# Altium schematic symbol library Schematic-FragasLab.SchLib: 425 symbols (part 5 of 7)
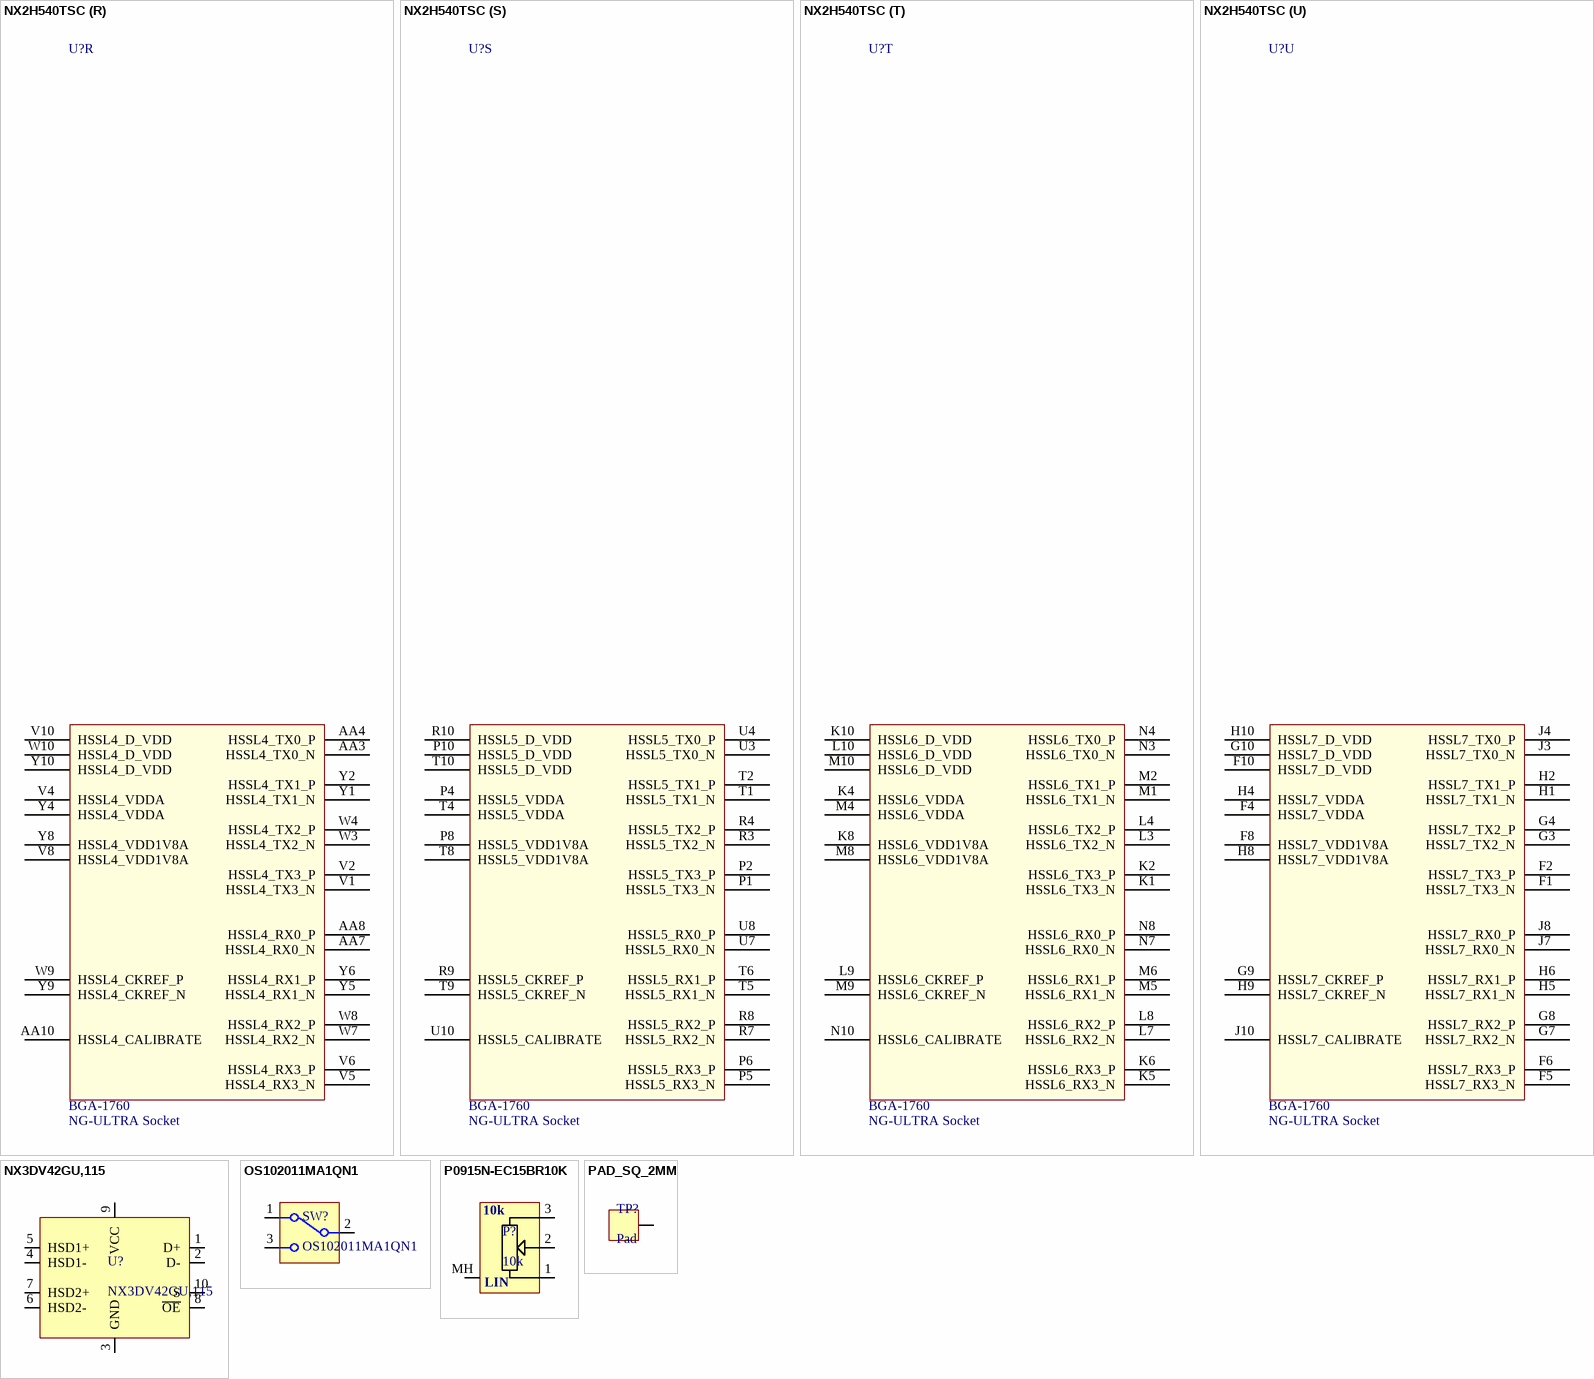
[diagram p46: symbols NX2H540TSC to PAD_SQ_2MM]

## NX2H540TSC
designator U?, comment value NG-ULTRA Socket  Footprint: BGA-1760  (hidden comment: NG-ULTRA)
socket for NG-ULTRA plastic in LGA-1760 NG-ULTRA with 500 KLUT / 129Kreg / Quad Cortex R52; Part manufacturer: NANOXPLORE; Part number: NG-ULTRA Socket; Supplier: Nanoxplore
footprint FBGA-1760
part A pins: AF31 READY, AF32 ERROR, AG31 TRIGGER, AG32 RST_SOFT_N, AH31 MODE0, AH32 VDDIO_SERVICE, AH33 RST_HARD_N, AJ31 MODE1, AJ33 POK, AK30 ID0, AK31 ID1, AK32 ID2, AK33 ID3, AL25 CS, AL26 TYPE0, AL27 TYPE1, AL28 DATA_OE, AL29 USER1, AL30 USER2, AL31 VDDIO_SERVICE, AL32 USER3, AL33 USER4, AM25 D13, AM26 VDDIO_SERVICE, AM27 D14, AM28 D15, AM29 USER0, AM30 TCK, AM31 TDI, AM32 TDO, AM33 TRST, AN25 D8, AN26 D9, AN28 D10, AN29 D11, AN30 D12, AN32 TMS, AN33 CLK_OSC, AP25 D0, AP26 D1, AP27 D2, AP28 D3, AP29 D4, AP30 D5, AP31 D6, AP32 D7, AP33 CLK_BSM, J25 SPI1_CS_N, J26 SPI1_IO0, J27 SPI1_IO1, J28 SPI1_IO2, J29 SPI1_IO3, J31 SPI1_SCLK, J32 SIN, J33 SOUT, K25 SPI2_CS_N, K26 SPI2_IO0, K27 SPI2_IO1, K28 SPI2_IO2, K29 SPI2_IO3, K30 SPI2_SCLK, K31 SPI_RESET_N, K32 DIN, K33 DOUT, L25 SPI3_CS_N, L26 SPI3_IO0, L28 SPI3_IO1, L29 SPI3_IO2, L30 SPI3_IO3, L31 SPI3_SCLK, M26 SPI4_CS_N, M27 SPI4_IO0, M28 SPI4_IO1, M29 SPI4_IO2, M30 SPI4_IO3, M31 SPI4_SCLK, M32 FLASH_NUM0, M33 FLASH_NUM1, N28 REFCLK1, N29 GPIO0, N30 GPIO1, N31 GPIO2, N32 FLASH_MODE, N33 BOOT_SRC, P30 GPIO3, P31 GPIO4, P32 GPIO5, P33 GPIO7, R29 REFCLK2, R30 UART_TX, R31 UART_RX, R32 GPIO6, T29 UART_CTS_N, T30 UART_RTS_N, T31 POWER_ON_RSTN, T33 MODE_BIST, U29 BL0_RUNNING, U30 BOOT_ERROR, U31 MODE_SCAN, U32 SYSTEM_RSTN, V30 MODE_TEST, V31 MREPAIR_SEQ_BYPASS, V32 POST_MORTEM
part B pins: AL17 IO_B00D06, AL18 IO_B00D07, AL19 IO_B00_VDDIO, AL20 IO_B00D14, AL21 IO_B00D15, AL22 IO_B00D16, AL23 IO_B00D17, AL24 IO_B00_VDDIO, AM18 IO_B00D04, AM19 IO_B00D05, AM20 IO_B00D12, AM21 IO_B00D13, AM23 IO_B00D18, AM24 IO_B00D19, AN17 IO_B00D00, AN18 IO_B00D02, AN19 IO_B00D03, AN20 IO_B00D10, AN21 IO_B00D11, AN22 IO_B00D20, AN23 IO_B00D21, AN24 IO_B00D22, AP17 IO_B00_VDDIO, AP18 IO_B00D01, AP20 IO_B00D08, AP21 IO_B00D09, AP22 IO_B00_VDDIO, AP23 IO_B00D23, AR17 IO_B01D06, AR18 IO_B01D07, AR19 IO_B01_VDDIO, AR20 IO_B01D14, AR21 IO_B01D15, AR22 IO_B01D16, AR23 IO_B01D17, AR24 IO_B01_VDDIO, AT18 IO_B01D04, AT19 IO_B01D05, AT20 IO_B01D12, AT21 IO_B01D13, AT23 IO_B01D18, AT24 IO_B01D19, AU17 IO_B01D00, AU18 IO_B01D02, AU19 IO_B01D03, AU20 IO_B01D10, AU21 IO_B01D11, AU22 IO_B01D20, AU23 IO_B01D21, AU24 IO_B01D22, AV17 IO_B01_VDDIO, AV18 IO_B01D01, AV20 IO_B01D08, AV21 IO_B01D09, AV22 IO_B01_VDDIO, AV23 IO_B01D23
part C pins: E17 IO_B06_VDDIO, E18 IO_B06D01, E20 IO_B06D08, E21 IO_B06D09, E22 IO_B06_VDDIO, E23 IO_B06D23, F17 IO_B06D00, F18 IO_B06D02, F19 IO_B06D03, F20 IO_B06D10, F21 IO_B06D11, F22 IO_B06D20, F23 IO_B06D21, F24 IO_B06D22, G18 IO_B06D04, G19 IO_B06D05, G20 IO_B06D12, G21 IO_B06D13, G23 IO_B06D18, G24 IO_B06D19, H17 IO_B06D06, H18 IO_B06D07, H19 IO_B06_VDDIO, H20 IO_B06D14, H21 IO_B06D15, H22 IO_B06D16, H23 IO_B06D17, H24 IO_B06_VDDIO, J17 IO_B07_VDDIO, J18 IO_B07D01, J20 IO_B07D08, J21 IO_B07D09, J22 IO_B07_VDDIO, J23 IO_B07D23, K17 IO_B07D00, K18 IO_B07D02, K19 IO_B07D03, K20 IO_B07D10, K21 IO_B07D11, K22 IO_B07D20, K23 IO_B07D21, K24 IO_B07D22, L18 IO_B07D04, L19 IO_B07D05, L20 IO_B07D12, L21 IO_B07D13, L23 IO_B07D18, L24 IO_B07D19, M17 IO_B07D06, M18 IO_B07D07, M19 IO_B07_VDDIO, M20 IO_B07D14, M21 IO_B07D15, M22 IO_B07D16, M23 IO_B07D17, M24 IO_B07_VDDIO
part D pins: AL12 IO_B02D06_N, AL14 IO_B02D06_P, AL15 IO_B02D04_N, AL16 IO_B02_VDDIO, AM12 IO_B02D07_N, AM13 IO_B02D07_P, AM14 IO_B02D05_N, AM15 IO_B02D05_P, AM16 IO_B02D04_P, AN12 IO_B02D08_N, AN13 IO_B02_VDDIO, AN14 IO_B02D10_N, AN15 IO_B02D11_N, AP12 IO_B02D08_P_CLK, AP13 IO_B02D09_N, AP14 IO_B02D09_P_CLK, AP15 IO_B02D10_P, AP16 IO_B02D11_P, AR12 IO_B02D01_N_SWSO, AR13 IO_B02D00_N_SWDO, AR14 IO_B02D00_P_SWDO, AR15 IO_B02D12_N, AR16 IO_B02D12_P, AT12 IO_B02D01_P_SWSO, AT14 IO_B02D02_N_SWDI, AT15 IO_B02D13_N_SWDO, AT16 IO_B02_VDDIO, AU12 IO_B02D03_N_SWSI, AU13 IO_B02D03_P_SWSI, AU14 IO_B02D02_P_SWDI, AU15 IO_B02D13_P_SWDO, AU16 IO_B02D14_N_SWSO, AV12 IO_B02_VTO, AV13 IO_B02_VTO, AV14 IO_B02_VTO, AV15 IO_B02_VDDIO, AV16 IO_B02D14_P_SWSO, AW4 IO_B03D11_N, AW5 IO_B03D11_P, AW6 IO_B03_VDDIO, AW7 IO_B03D09_N, AW8 IO_B03D09_P_CLK, AW10 IO_B03D06_P, AW11 IO_B03_VDDIO, AW12 IO_B03_VTO, AW13 IO_B03_VTO, AW14 IO_B03_VTO, AW15 IO_B02_VDDS, AY3 IO_B03D12_N, AY4 IO_B03D12_P, AY5 IO_B03D10_N, AY6 IO_B03D10_P, AY7 IO_B03D08_N, AY8 IO_B03D08_P_CLK, AY9 IO_B03D06_N, AY10 IO_B03D05_N, AY11 IO_B03D05_P, AY12 IO_B03D04_N, AY13 IO_B03D04_P, AY14 IO_B03_VDDS, AY15 IO_B02D15_N_SWDI, AY16 IO_B02D15_P_SWDI, BA3 IO_B03D15_N_SWDI, BA4 IO_B03D16_N_SWSI, BA5 IO_B03D16_P_SWSI, BA7 IO_B03D07_N, BA8 IO_B03D07_P, BA9 IO_B03D03_N_SWSI, BA10 IO_B03D03_P_SWSI, BA12 IO_B03D01_N_SWSO, BA13 IO_B03D01_P_SWSO, BA14 IO_B03_VDDIO, BA15 IO_B02D16_N_SWSI, BA16 IO_B02D16_P_SWSI, BB3 IO_B03_VDDIO, BB4 IO_B03D15_P_SWDI, BB5 IO_B03D14_N_SWSO, BB6 IO_B03D14_P_SWSO, BB7 IO_B03D13_N_SWDO, BB8 IO_B03D13_P_SWDO, BB9 IO_B03_VDDIO, BB10 IO_B03D02_N_SWDI, BB11 IO_B03D02_P_SWDI, BB12 IO_B03D00_N_SWDO, BB13 IO_B03D00_P_SWDO, BB16 IO_B02_VDDIO
part E pins: A3 IO_B04_VDDIO, A4 IO_B04D15_P_SWDI, A5 IO_B04D14_N_SWSO, A6 IO_B04D14_P_SWSO, A7 IO_B04D13_N_SWDO, A8 IO_B04D13_P_SWDO, A9 IO_B04_VDDIO, A10 IO_B04D02_N_SWDI, A11 IO_B04D02_P_SWDI, A12 IO_B04D00_N_SWDO, A13 IO_B04D00_P_SWDO, A16 IO_B05_VDDIO, B3 IO_B04D15_N_SWDI, B4 IO_B04D16_N_SWSI, B5 IO_B04D16_P_SWSI, B7 IO_B04D07_N, B8 IO_B04D07_P, B9 IO_B04D03_N_SWSI, B10 IO_B04D03_P_SWSI, B12 IO_B04D01_N_SWSO, B13 IO_B04D01_P_SWSO, B14 IO_B04_VDDIO, B15 IO_B05D16_N_SWSI, B16 IO_B05D16_P_SWSI, C3 IO_B04D12_N, C4 IO_B04D12_P, C5 IO_B04D10_N, C6 IO_B04D10_P, C7 IO_B04D08_N, C8 IO_B04D08_P_CLK, C9 IO_B04D06_N, C10 IO_B04D05_N, C11 IO_B04D05_P, C12 IO_B04D04_N, C13 IO_B04D04_P, C14 IO_B04_VDDS, C15 IO_B05D15_N_SWDI, C16 IO_B05D15_P_SWDI, D4 IO_B04D11_N, D5 IO_B04D11_P, D6 IO_B04_VDDIO, D7 IO_B04D09_N, D8 IO_B04D09_P_CLK, D10 IO_B04D06_P, D11 IO_B04_VDDIO, D12 IO_B04_VTO, D13 IO_B04_VTO, D14 IO_B04_VTO, D15 IO_B05_VDDS, E12 IO_B05_VTO, E13 IO_B05_VTO, E14 IO_B05_VTO, E15 IO_B05_VDDIO, E16 IO_B05D14_P_SWSO, F12 IO_B05D03_N_SWSI, F13 IO_B05D03_P_SWSI, F14 IO_B05D02_P_SWDI, F15 IO_B05D13_P_SWDO, F16 IO_B05D14_N_SWSO, G12 IO_B05D01_P_SWSO, G14 IO_B05D02_N_SWDI, G15 IO_B05D13_N_SWDO, G16 IO_B05_VDDIO, H12 IO_B05D01_N_SWSO, H13 IO_B05D00_N_SWDO, H14 IO_B05D00_P_SWDO, H15 IO_B05D12_N, H16 IO_B05D12_P, J12 IO_B05D08_P_CLK, J13 IO_B05D09_N, J14 IO_B05D09_P_CLK, J15 IO_B05D10_P, J16 IO_B05D11_P, K12 IO_B05D08_N, K13 IO_B05_VDDIO, K14 IO_B05D10_N, K15 IO_B05D11_N, L12 IO_B05D07_N, L13 IO_B05D07_P, L14 IO_B05D05_N, L15 IO_B05D05_P, L16 IO_B05D04_P, M12 IO_B05D06_N, M14 IO_B05D06_P, M15 IO_B05D04_N, M16 IO_B05_VDDIO
part F pins: A18 IO_B08D01_N_SWSO, A19 IO_B08D01_P_SWSO, A20 IO_B08_VDDIO, A21 IO_B08D10_N, A22 IO_B08D10_P, A24 IO_B08D12_N, A25 IO_B08D12_P, A26 IO_B08_VDDIO, A27 IO_B08_VDDIO, B17 IO_B08D00_N_SWDO, B18 IO_B08D00_P_SWDO, B19 IO_B08D04_N, B20 IO_B08D04_P, B21 IO_B08D09_N, B22 IO_B08D09_P_CLK, B23 IO_B08D11_N, B24 IO_B08D11_P, B25 IO_B08D14_N_SWSO, B26 IO_B08D14_P_SWSO, B27 IO_B08D15_P_SWDI, C17 IO_B08_VDDIO, C18 IO_B08D02_N_SWDI, C19 IO_B08D02_P_SWDI, C21 IO_B08D07_N, C22 IO_B08D07_P, C23 IO_B08_VDDIO, C24 IO_B08D13_N_SWDO, C25 IO_B08D13_P_SWDO, C26 IO_B08D15_N_SWDI, C27 IO_B08D16_P_SWSI, C28 IO_B08_VTO, C31 IO_B08_VDDS, D17 IO_B08D03_N_SWSI, D18 IO_B08D03_P_SWSI, D19 IO_B08D05_N, D20 IO_B08D05_P, D21 IO_B08D06_N, D22 IO_B08D06_P, D23 IO_B08D08_N, D24 IO_B08D08_P_CLK, D26 IO_B08D16_N_SWSI, D27 IO_B09D01_P_SWSO, D28 IO_B08_VTO, D30 IO_B09_VTO, E26 IO_B09D01_N_SWSO, E27 IO_B09D04_N, E28 IO_B08_VTO, E29 IO_B09_VTO, E30 IO_B09_VTO, E31 IO_B09_VDDS, E32 IO_B09D11_N, E33 IO_B09D11_P, E34 IO_B09D12_N, E35 IO_B09D12_P, F25 IO_B09D00_N_SWDO, F26 IO_B09D00_P_SWDO, F27 IO_B09_VDDIO, F28 IO_B09D04_P, F29 IO_B09D07_N, F31 IO_B09D10_N, F32 IO_B09D10_P, F33 IO_B09_VDDIO, F34 IO_B09D15_N_SWDI, F35 IO_B09D14_N_SWSO, G25 IO_B09D02_N_SWDI, G26 IO_B09D02_P_SWDI, G27 IO_B09D03_P_SWSI, G28 IO_B09D06_N, G29 IO_B09D06_P, G30 IO_B09D07_P, G31 IO_B09D09_N, G32 IO_B09D09_P_CLK, G33 IO_B09D13_N_SWDO, G34 IO_B09D13_P_SWDO, G35 IO_B09D15_P_SWDI, G36 IO_B09D14_P_SWSO, H25 IO_B09_VDDIO, H26 IO_B09D03_N_SWSI, H28 IO_B09D05_N, H29 IO_B09D05_P, H30 IO_B09_VDDIO, H31 IO_B09D08_N, H32 IO_B09D08_P_CLK, H34 IO_B09D16_N_SWSI, H35 IO_B09D16_P_SWSI, H36 IO_B09_VDDIO
part G pins: A28 IO_B10_VDDIO, A29 IO_B10D01_N_SWSO, A30 IO_B10D01_P_SWSO, A32 IO_B10D04_N, A33 IO_B10D04_P, A34 IO_B10_VDDIO, A35 IO_B10D10_N, A36 IO_B10D10_P, A38 IO_B10D12_N, A39 IO_B10D12_P, A40 IO_B10_VDDIO, B30 IO_B10D00_N_SWDO, B31 IO_B10D00_P_SWDO, B32 IO_B10D02_N_SWDI, B33 IO_B10D02_P_SWDI, B34 IO_B10D09_N, B35 IO_B10D09_P_CLK, B36 IO_B10D11_N, B37 IO_B10D11_P, B38 IO_B10D13_N_SWDO, B39 IO_B10D13_P_SWDO, B40 IO_B10D14_P_SWSO, C29 IO_B10_VTO, C30 IO_B10_VTO, C32 IO_B10D03_N_SWSI, C33 IO_B10D03_P_SWSI, C35 IO_B10D07_N, C36 IO_B10D07_P, C37 IO_B10_VDDIO, C38 IO_B10D15_P_SWDI, C39 IO_B10D14_N_SWSO, D29 IO_B10_VTO, D31 IO_B10_VDDS, D32 IO_B10_VDDIO, D33 IO_B10D05_N, D34 IO_B10D05_P, D35 IO_B10D06_N, D36 IO_B10D06_P, D37 IO_B10D08_P_CLK, D38 IO_B10D15_N_SWDI, D39 IO_B10D16_N_SWSI, D40 IO_B10D16_P_SWSI, E36 IO_B10D08_N
part H pins: AV36 IO_B11D08_N, AW29 IO_B11_VTO, AW31 IO_B11_VDDS, AW32 IO_B11_VDDIO, AW33 IO_B11D05_N, AW34 IO_B11D05_P, AW35 IO_B11D06_N, AW36 IO_B11D06_P, AW37 IO_B11D08_P_CLK, AW38 IO_B11D15_N_SWDI, AW39 IO_B11D16_N_SWSI, AW40 IO_B11D16_P_SWSI, AY29 IO_B11_VTO, AY30 IO_B11_VTO, AY32 IO_B11D03_N_SWSI, AY33 IO_B11D03_P_SWSI, AY35 IO_B11D07_N, AY36 IO_B11D07_P, AY37 IO_B11_VDDIO, AY38 IO_B11D15_P_SWDI, AY39 IO_B11D14_N_SWSO, BA30 IO_B11D00_N_SWDO, BA31 IO_B11D00_P_SWDO, BA32 IO_B11D02_N_SWDI, BA33 IO_B11D02_P_SWDI, BA34 IO_B11D09_N, BA35 IO_B11D09_P_CLK, BA36 IO_B11D11_N, BA37 IO_B11D11_P, BA38 IO_B11D13_N_SWDO, BA39 IO_B11D13_P_SWDO, BA40 IO_B11D14_P_SWSO, BB28 IO_B11_VDDIO, BB29 IO_B11D01_N_SWSO, BB30 IO_B11D01_P_SWSO, BB32 IO_B11D04_N, BB33 IO_B11D04_P, BB34 IO_B11_VDDIO, BB35 IO_B11D10_N, BB36 IO_B11D10_P, BB38 IO_B11D12_N, BB39 IO_B11D12_P, BB40 IO_B11_VDDIO
part I pins: AR25 IO_B12_VDDIO, AR26 IO_B12D03_N_SWSI, AR28 IO_B12D05_N, AR29 IO_B12D05_P, AR30 IO_B12_VDDIO, AR31 IO_B12D08_N, AR32 IO_B12D08_P_CLK, AR34 IO_B12D16_N_SWSI, AR35 IO_B12D16_P_SWSI, AR36 IO_B12_VDDIO, AT25 IO_B12D02_N_SWDI, AT26 IO_B12D02_P_SWDI, AT27 IO_B12D03_P_SWSI, AT28 IO_B12D06_N, AT29 IO_B12D06_P, AT30 IO_B12D07_P, AT31 IO_B12D09_N, AT32 IO_B12D09_P_CLK, AT33 IO_B12D13_N_SWDO, AT34 IO_B12D13_P_SWDO, AT35 IO_B12D15_P_SWDI, AT36 IO_B12D14_P_SWSO, AU25 IO_B12D00_N_SWDO, AU26 IO_B12D00_P_SWDO, AU27 IO_B12_VDDIO, AU28 IO_B12D04_P, AU29 IO_B12D07_N, AU31 IO_B12D10_N, AU32 IO_B12D10_P, AU33 IO_B12_VDDIO, AU34 IO_B12D15_N_SWDI, AU35 IO_B12D14_N_SWSO, AV26 IO_B12D01_N_SWSO, AV27 IO_B12D04_N, AV28 IO_B13_VTO, AV29 IO_B12_VTO, AV30 IO_B12_VTO, AV31 IO_B12_VDDS, AV32 IO_B12D11_N, AV33 IO_B12D11_P, AV34 IO_B12D12_N, AV35 IO_B12D12_P, AW17 IO_B13D03_N_SWSI, AW18 IO_B13D03_P_SWSI, AW19 IO_B13D05_N, AW20 IO_B13D05_P, AW21 IO_B13D06_N, AW22 IO_B13D06_P, AW23 IO_B13D08_N, AW24 IO_B13D08_P_CLK, AW26 IO_B13D16_N_SWSI, AW27 IO_B12D01_P_SWSO, AW28 IO_B13_VTO, AW30 IO_B12_VTO, AY17 IO_B13_VDDIO, AY18 IO_B13D02_N_SWDI, AY19 IO_B13D02_P_SWDI, AY21 IO_B13D07_N, AY22 IO_B13D07_P, AY23 IO_B13_VDDIO, AY24 IO_B13D13_N_SWDO, AY25 IO_B13D13_P_SWDO, AY26 IO_B13D15_N_SWDI, AY27 IO_B13D16_P_SWSI, AY28 IO_B13_VTO, AY31 IO_B13_VDDS, BA17 IO_B13D00_N_SWDO, BA18 IO_B13D00_P_SWDO, BA19 IO_B13D04_N, BA20 IO_B13D04_P, BA21 IO_B13D09_N, BA22 IO_B13D09_P_CLK, BA23 IO_B13D11_N, BA24 IO_B13D11_P, BA25 IO_B13D14_N_SWSO, BA26 IO_B13D14_P_SWSO, BA27 IO_B13D15_P_SWDI, BB18 IO_B13D01_N_SWSO, BB19 IO_B13D01_P_SWSO, BB20 IO_B13_VDDIO, BB21 IO_B13D10_N, BB22 IO_B13D10_P, BB24 IO_B13D12_N, BB25 IO_B13D12_P, BB26 IO_B13_VDDIO, BB27 IO_B13_VDDIO
part J pins: AB41 SOC_DDR_BG0, AB42 SOC_DDR_WEN, AC42 SOC_DDR_RST, AD35 SOC_DDR_DQSN5, AD36 SOC_DDR_DM5, AD37 SOC_DDR_DQ47, AD41 SOC_DDR_BG1, AD42 SOC_DDR_RAS, AE35 SOC_DDR_DQSP5, AE36 SOC_DDR_DQ46, AE37 SOC_DDR_DQ45, AE38 SOC_DDR_DQ44, AE39 SOC_DDR_DQ43, AE40 SOC_DDR_DQ42, AE41 SOC_DDR_BA0, AE42 SOC_DDR_ACT, AF36 SOC_DDR_DM4, AF37 SOC_DDR_DQ39, AF39 SOC_DDR_DQ40, AF40 SOC_DDR_DQ41, AF42 SOC_DDR_CAS, AG35 SOC_DDR_DQSN4, AG36 SOC_DDR_DQ38, AG37 SOC_DDR_DQ37, AG38 SOC_DDR_DQ36, AG39 SOC_DDR_DQ35, AG40 SOC_DDR_ODT, AG41 SOC_DDR_BA1, AH35 SOC_DDR_DQSP4, AH36 SOC_DDR_DQ32, AH37 SOC_DDR_DQ33, AH38 SOC_DDR_DQSN3, AH39 SOC_DDR_DQSP3, AH40 SOC_DDR_DQ34, AH41 SOC_DDR_A13, AJ36 SOC_DDR_DQ31, AJ37 SOC_DDR_DQ30, AJ39 SOC_DDR_DM3, AJ40 SOC_DDR_DQ29, AJ42 SOC_DDR_CSN, AK35 SOC_DDR_DM2, AK36 SOC_DDR_DQSP2, AK37 SOC_DDR_DQ28, AK38 SOC_DDR_DQ27, AK39 SOC_DDR_DQ26, AK40 SOC_DDR_DQ25, AK41 SOC_DDR_A12, AK42 SOC_DDR_CKE, AL35 SOC_DDR_DQSN2, AL36 SOC_DDR_DQ20, AL37 SOC_DDR_DQ21, AL38 SOC_DDR_DQ22, AL39 SOC_DDR_DQ23, AL40 SOC_DDR_DQ24, AL41 SOC_DDR_A11, AL42 SOC_DDR_A0, AM36 SOC_DDR_DQ19, AM37 SOC_DDR_DQ18, AM39 SOC_DDR_DM1, AM40 SOC_DDR_A1, AM42 SOC_DDR_CKP, AN36 SOC_DDR_DQ17, AN37 SOC_DDR_DQSP1, AN38 SOC_DDR_DQ15, AN39 SOC_DDR_DQ14, AN40 SOC_DDR_DQ13, AN41 SOC_DDR_A10, AN42 SOC_DDR_CKN, AP36 SOC_DDR_DQ16, AP37 SOC_DDR_DQSN1, AP38 SOC_DDR_DQ10, AP39 SOC_DDR_DQ11, AP40 SOC_DDR_DQ12, AP41 SOC_DDR_A9, AP42 SOC_DDR_A2, AR37 SOC_DDR_DQSP0, AR39 SOC_DDR_DQ8, AR40 SOC_DDR_DQ9, AR42 SOC_DDR_A3, AT37 SOC_DDR_DQSN0, AT38 SOC_DDR_DQ7, AT39 SOC_DDR_DQ6, AT40 SOC_DDR_DQ5, AT41 SOC_DDR_A8, AT42 SOC_DDR_A4, AU37 SOC_DDR_DM0, AU38 SOC_DDR_DQ2, AU39 SOC_DDR_DQ3, AU40 SOC_DDR_DQ4, AU41 SOC_DDR_A7, AU42 SOC_DDR_A5, AV39 SOC_DDR_DQ1, AV40 SOC_DDR_DQ0, AV42 SOC_DDR_A6
part K pins: AA35 SOC_DDR_DQSN7, AA36 SOC_DDR_DQ58, AA37 SOC_DDR_DQ59, AA38 SOC_DDR_DQ60, AA39 SOC_DDR_DQ61, AA40 SOC_DDR_DM6, AA41 SOC_DDR_DM13_BG0, AA42 SOC_DDR_DQ127_CKE, AB35 SOC_DDR_DQSP7, AB36 SOC_DDR_DQ55, AB37 SOC_DDR_DQ56, AB38 SOC_DDR_DQ57, AB39 SOC_DDR_DQSN6, AB40 SOC_DDR_DQSP6, AC36 SOC_DDR_DQ54, AC37 SOC_DDR_DQ53, AC39 SOC_DDR_DQ52, AC40 SOC_DDR_DQ51, AD38 SOC_DDR_DQ48, AD39 SOC_DDR_DQ49, AD40 SOC_DDR_DQ50, AG42 SOC_DDR_DQSN15_CKN, AH42 SOC_DDR_DQSP15_CKP, E39 SOC_DDR_DQ102, E40 SOC_DDR_DQ103, E42 SOC_DDR_DQ104_RST, F37 SOC_DDR_DQSN12, F38 SOC_DDR_DQSP12, F39 SOC_DDR_DQ101, F40 SOC_DDR_DQ100, F41 SOC_DDR_DQ107_WEN, F42 SOC_DDR_DQ105_ODT, G37 SOC_DDR_DM12, G38 SOC_DDR_DQ97, G39 SOC_DDR_DQ98, G40 SOC_DDR_DQ99, G41 SOC_DDR_DQ108_BA0, G42 SOC_DDR_DQ109_A6, H39 SOC_DDR_DQ96, H40 SOC_DDR_DQ95, H42 SOC_DDR_DQ110_A8, J36 SOC_DDR_DM11, J37 SOC_DDR_DQSN11, J38 SOC_DDR_DQSP11, J39 SOC_DDR_DQ93, J40 SOC_DDR_DQ94, J41 SOC_DDR_DQ111_A11, J42 SOC_DDR_DM14_A2, K36 SOC_DDR_DQ90, K37 SOC_DDR_DQ88, K38 SOC_DDR_DQ87, K39 SOC_DDR_DQ91, K40 SOC_DDR_DQ92, K41 SOC_DDR_DQ112_ACT, K42 SOC_DDR_DQSN13_CKN, L36 SOC_DDR_DQ89, L37 SOC_DDR_DQ84, L39 SOC_DDR_DQ86, L40 SOC_DDR_DQSP10, L42 SOC_DDR_DQSP13_CKP, M37 SOC_DDR_DQ83, M38 SOC_DDR_DQ85, M39 SOC_DDR_DM10, M40 SOC_DDR_DQSN10, M41 SOC_DDR_DQ113_A10, M42 SOC_DDR_DQ114_A4, N36 SOC_DDR_DQ82, N37 SOC_DDR_DQ81, N38 SOC_DDR_DQ80, N39 SOC_DDR_DQ79, N40 SOC_DDR_DQ115_A0, N41 SOC_DDR_DQ116_CSN, N42 SOC_DDR_DQ106_CKE, P37 SOC_DDR_DM9, P39 SOC_DDR_DQ77, P40 SOC_DDR_DQ78, P42 SOC_DDR_DQ117_CAS, R37 SOC_DDR_DQSN9, R38 SOC_DDR_DQ74, R39 SOC_DDR_DQ75, R40 SOC_DDR_DQ76, R41 SOC_DDR_DQ118_A12, R42 SOC_DDR_DQSN14_CKN, T37 SOC_DDR_DQSP9, T38 SOC_DDR_DQ72, T39 SOC_DDR_DQ73, T40 SOC_DDR_DQ119_A3, T41 SOC_DDR_DM15_BA1, T42 SOC_DDR_DQSP14_CKP, U37 SOC_DDR_DQ71, U39 SOC_DDR_DQSN8, U40 SOC_DDR_DQSP8, U42 SOC_DDR_DQ120_A1, V37 SOC_DDR_DQ70, V38 SOC_DDR_DQ69, V39 SOC_DDR_DQ68, V40 SOC_DDR_DM8, V41 SOC_DDR_DQ122_RAS, V42 SOC_DDR_DQ121_A9, W37 SOC_DDR_DQ65, W38 SOC_DDR_DQ66, W39 SOC_DDR_DQ67, W40 SOC_DDR_DQ123_BG1, W41 SOC_DDR_DQ124_A5, W42 SOC_DDR_DQ125_A7, Y36 SOC_DDR_DM7, Y37 SOC_DDR_DQ64, Y39 SOC_DDR_DQ63, Y40 SOC_DDR_DQ62, Y42 SOC_DDR_DQ126_A13
part L pins: AA30 SOC_VDDCORE, AA32 SOC_VDDCORE, AA34 SOC_VDDCORE, AB31 SOC_VDDCORE, AB33 SOC_VDDCORE, AC30 SOC_VDDCORE, AC32 SOC_VDDCORE, AC34 SOC_VDDCORE, AC38 SOC_DDR_VDDIO, AD31 SOC_VDDCORE, AD33 SOC_VDDCORE, AE30 SOC_VDDCORE, AE32 SOC_VDDCORE, AE34 SOC_VDDCORE, AF34 SOC_DDR_VDDS, AF35 SOC_DDR_VDDIO, AF41 SOC_DDR_VDDIO, AG33 SOC_DDR_VDDS, AG34 SOC_DDR_VDDS, AH34 SOC_DDR_VDDIO, AJ38 SOC_DDR_VDDIO, AM35 SOC_DDR_VDDIO, AM41 SOC_DDR_VDDIO, AN35 SOC_DDR_VDDIO, AR38 SOC_DDR_VDDIO, AV41 SOC_DDR_VDDIO, E37 SOC_DDR_VDDIO, E38 SOC_DDR_VDDIO, H41 SOC_DDR_VDDIO, J30 SOC_BSCAN_VDDIO, L33 SOC_BSCAN_VDDIO, L35 SOC_DDR_VDDIO, L38 SOC_DDR_VDDIO, M25 SOC_BSCAN_VDDIO, N35 SOC_DDR_VDDIO, P29 SOC_BSCAN_VDDIO, P35 SOC_DDR_VTO, P36 SOC_DDR_VTO, P41 SOC_DDR_VDDIO, R33 SOC_PLL_VDD1V8, R34 SOC_DDR_VTO, R35 SOC_DDR_VTO, R36 SOC_DDR_VTO, T34 SOC_DDR_VTO, T35 SOC_DDR_VTO, T36 SOC_DDR_VTO, U33 SOC_PLL_VDDA, U34 SOC_DDR_VTO, U35 SOC_DDR_VTO, U38 SOC_DDR_VDDIO, V33 SOC_BSCAN_VDDIO, V34 SOC_DDR_VTO, V35 SOC_DDR_VTO, V36 SOC_DDR_VTO, W30 SOC_VDDCORE, W32 SOC_VDDCORE, W34 SOC_VDDCORE, W35 SOC_DDR_VTO, W36 SOC_DDR_VTO, Y31 SOC_VDDCORE, Y33 SOC_VDDCORE, Y35 SOC_DDR_VDDIO, Y41 SOC_DDR_VDDIO
part M pins: A2 GND, A14 GND, A15 GND, A17 GND, A23 GND, A31 GND, A37 GND, A41 GND, AA1 GND, AA2 GND, AA5 GND, AA6 GND, AA9 GND, AA11 GND, AA12 CKGEN2_PLL_VDD1V8A, AA13 GND, AA14 VDDCORE, AA15 GND, AA16 VDDCORE, AA17 GND, AA18 VDDCORE, AA19 GND, AA20 VDDCORE, AA21 SENSE, AA22 VDDCORE, AA23 GND, AA24 VDDCORE, AA25 GND, AA26 VDD1V8A, AA27 VDD1V8A, AA28 VDDCORE, AA29 GND, AA31 GND, AA33 GND, AB3 GND, AB7 GND, AB9 GND, AB11 GND, AB12 CKGEN2_PLL_VDDA, AB13 VDDCORE, AB14 GND, AB15 VDDCORE, AB16 GND, AB17 VDDCORE, AB18 GND, AB19 VDDCORE, AB20 GND, AB21 VDDCORE, AB22 GND, AB23 VDDCORE, AB24 GND, AB25 VDDCORE, AB26 VDD1V8A, AB27 VDD1V8A, AB28 GND, AB29 VDDCORE, AB30 GND, AB32 GND, AB34 GND, AC1 GND, AC2 GND, AC5 GND, AC6 GND, AC11 GND, AC12 CKGEN2_PLL_VDD1V8A, AC13 GND, AC14 VDDCORE, AC15 GND, AC16 VDDCORE, AC17 GND, AC18 VDDCORE, AC19 GND, AC20 VDDCORE, AC21 GND, AC22 VDDCORE, AC23 GND, AC24 VDDCORE, AC25 GND, AC26 VDD1V8A, AC27 VDD1V8A, AC28 VDDCORE, AC29 GND, AC31 GND, AC33 GND, AC35 GND, AC41 GND, AD3 GND, AD7 GND, AD11 GND, AD12 GND, AD13 VDDCORE, AD14 GND, AD15 VDDCORE, AD16 GND, AD17 VDDCORE, AD18 GND, AD19 VDDCORE, AD20 GND, AD21 VDDCORE, AD22 GND, AD23 VDDCORE, AD24 GND, AD25 VDDCORE, AD26 GND, AD27 VDDCORE, AD28 GND, AD29 VDDCORE, AD30 GND, AD32 GND, AD34 GND, AE1 GND, AE2 GND, AE5 GND, AE6 GND, AE9 GND, AE11 GND, AE12 VDDCORE, AE13 GND, AE14 VDDCORE, AE15 GND, AE16 VDDCORE, AE17 GND, AE18 VDDCORE, AE19 GND, AE20 VDDCORE, AE21 GND, AE22 VDDCORE, AE23 GND, AE24 VDDCORE, AE25 GND, AE26 VDDCORE, AE27 GND, AE28 VDDCORE, AE29 GND, AE31 GND, AE33 GND, AF3 GND, AF7 GND, AF9 GND, AF11 GND, AF12 GND, AF13 VDDCORE, AF14 GND, AF15 VDDCORE, AF16 GND, AF17 VDDCORE, AF18 GND, AF19 VDDCORE, AF20 GND, AF21 VDDCORE, AF22 GND, AF23 VDDCORE, AF24 GND, AF25 VDDCORE, AF26 GND, AF27 VDDCORE, AF28 GND, AF29 VDDCORE, AF30 GND, AF33 GND, AF38 GND, AG1 GND, AG2 GND, AG5 GND, AG6 GND, AG11 GND, AG12 VDDCORE, AG13 GND, AG14 VDDCORE, AG15 GND, AG16 VDDCORE, AG17 GND, AG18 VDDCORE, AG19 GND, AG20 VDDCORE, AG21 GND, AG22 VDDCORE, AG23 GND, AG24 VDDCORE, AG25 GND, AG26 VDDCORE, AG27 GND, AG28 VDDCORE, AG29 GND, AG30 VDDCORE, AH3 GND, AH7 GND, AH11 GND, AH12 GND, AH13 VDDCORE, AH14 GND, AH15 VDDCORE, AH16 GND, AH17 VDDCORE, AH18 GND, AH19 VDDCORE, AH20 GND, AH21 VDDCORE, AH22 GND, AH23 VDDCORE, AH24 GND, AH25 VDDCORE, AH26 GND, AH27 VDDCORE, AH28 GND, AH29 VDDCORE, AH30 GND, AJ1 GND, AJ2 GND, AJ5 GND, AJ6 GND, AJ9 GND, AJ11 GND, AJ12 VDDCORE, AJ13 GND, AJ14 VDDCORE, AJ15 GND, AJ16 VDDCORE, AJ17 GND, AJ18 VDDCORE, AJ19 GND, AJ20 VDDCORE, AJ21 GND, AJ22 VDDCORE, AJ23 GND, AJ24 VDDCORE, AJ25 GND, AJ26 VDDCORE, AJ27 GND, AJ28 VDDCORE, AJ29 GND, AJ30 VDDCORE, AJ32 GND, AJ34 GND, AJ35 GND, AJ41 GND, AK3 GND, AK7 GND, AK9 GND, AK11 GND, AK12 GND, AK13 VDDCORE, AK14 GND, AK15 VDDCORE, AK16 GND, AK17 VDDCORE, AK18 GND, AK19 VDDCORE, AK20 GND, AK21 VDDCORE, AK22 GND, AK23 VDDCORE, AK24 GND, AK25 VDDCORE, AK26 GND, AK27 VDDCORE, AK28 GND, AK29 VDDCORE, AK34 CKGEN6_PLL_VDDA, AL1 GND, AL2 GND, AL5 GND, AL6 GND, AL11 GND, AL13 GND, AL34 CKGEN6_PLL_VDDA, AM3 GND, AM7 GND, AM11 GND, AM17 GND, AM22 GND, AM34 CKGEN6_PLL_VDD1V8A, AM38 GND, AN1 GND, AN2 GND, AN5 GND, AN6 GND, AN9 GND, AN11 GND, AN16 GND, AN27 GND, AN31 GND, AN34 CKGEN6_PLL_VDD1V8A, AP3 GND, AP7 GND, AP9 GND, AP11 GND, AP19 GND, AP24 GND, AP34 GND, AP35 GND, AR1 GND, AR2 GND, AR5 GND, AR6 GND, AR11 GND, AR27 GND, AR33 GND, AR41 GND, AT3 GND, AT7 GND, AT11 GND, AT13 GND, AT17 GND, AT22 GND, AU1 GND, AU2 GND, AU5 GND, AU6 GND, AU9 GND, AU11 GND, AU30 GND, AU36 GND, AV1 GND, AV2 GND, AV3 GND, AV4 GND, AV5 GND, AV6 GND, AV7 GND, AV8 GND, AV9 GND, AV10 GND, AV11 GND, AV19 GND, AV24 GND, AV25 GND, AV37 GND, AV38 GND, AW1 CKGEN1_PLL_VDD1V8A, AW2 CKGEN1_PLL_VDDA, AW3 GND, AW9 GND, AW16 GND, AW25 GND, AW41 CKGEN0_PLL_VDDA, AW42 CKGEN0_PLL_VDD1V8A, AY1 GND, AY2 CKGEN1_PLL_VDD1V8A, AY20 GND, AY34 GND, AY40 GND, AY41 CKGEN0_PLL_VDD1V8A, AY42 GND, B1 GND, B2 GND, B6 GND, B11 GND, B28 GND, B29 GND, B41 GND, B42 GND, BA1 GND, BA2 GND, BA6 GND, BA11 GND, BA28 GND, BA29 GND, BA41 GND, BA42 GND, BB2 GND, BB14 GND, BB15 GND, BB17 GND, BB23 GND, BB31 GND, BB37 GND, BB41 GND, C1 GND, C2 CKGEN3_PLL_VDD1V8A, C20 GND, C34 GND, C40 GND, C41 CKGEN4_PLL_VDD1V8A, C42 GND, D1 CKGEN3_PLL_VDD1V8A, D2 CKGEN3_PLL_VDDA, D3 GND, D9 GND, D16 GND, D25 GND, D41 CKGEN4_PLL_VDDA, D42 CKGEN4_PLL_VDD1V8A, E1 GND, E2 GND, E3 GND, E4 GND, E5 GND, E6 GND, E7 GND, E8 GND, E9 GND, E10 GND, E11 GND, E19 GND, E24 GND, E25 GND, E41 GND, F3 GND, F7 GND, F9 GND, F11 GND, F30 GND, F36 GND, G1 GND, G2 GND, G5 GND, G6 GND, G11 GND, G13 GND, G17 GND, G22 GND, H3 GND, H7 GND, H11 GND, H27 GND, H33 GND, H37 GND, H38 GND, J1 GND, J2 GND, J5 GND, J6 GND, J9 GND, J11 GND, J19 GND, J24 GND, J34 GND, J35 GND, K3 GND, K7 GND, K9 GND, K11 GND, K16 GND, K34 CKGEN5_PLL_VDD1V8A, K35 GND, L1 GND, L2 GND, L5 GND, L6 GND, L11 GND, L17 GND, L22 GND, L27 GND, L32 GND, L34 CKGEN5_PLL_VDD1V8A, L41 GND, M3 GND, M7 GND, M11 GND, M13 GND, M34 CKGEN5_PLL_VDDA, M35 GND, M36 GND, N1 GND, N2 GND, N5 GND, N6 GND, N9 GND, N11 GND, N12 VDDCORE, N13 GND, N14 VDDCORE, N15 GND, N16 VDDCORE, N17 GND, N18 VDDCORE, N19 GND, N20 VDDCORE, N21 GND, N22 VDDCORE, N23 GND, N24 VDDCORE, N25 GND, N26 VDDCORE, N27 GND, N34 CKGEN5_PLL_VDDA, P3 GND, P7 GND, P9 GND, P11 GND, P12 GND, P13 VDDCORE, P14 GND, P15 VDDCORE, P16 GND, P17 VDDCORE, P18 GND, P19 VDDCORE, P20 GND, P21 VDDCORE, P22 GND, P23 VDDCORE, P24 GND, P25 VDDCORE, P26 GND, P27 VDDCORE, P28 GND, P34 GND, P38 GND, R1 GND, R2 GND, R5 GND, R6 GND, R11 GND, R12 VDDCORE, R13 GND, R14 VDDCORE, R15 GND, R16 VDDCORE, R17 GND, R18 VDDCORE, R19 GND, R20 VDDCORE, R21 GND, R22 VDDCORE, R23 GND, R24 VDDCORE, R25 GND, R26 VDDCORE, R27 GND, R28 VDDCORE, T3 GND, T7 GND, T11 GND, T12 GND, T13 VDDCORE, T14 GND, T15 VDDCORE, T16 GND, T17 VDDCORE, T18 GND, T19 VDDCORE, T20 GND, T21 VDDCORE, T22 GND, T23 VDDCORE, T24 GND, T25 VDDCORE, T26 GND, T27 VDDCORE, T28 GND, T32 GND, U1 GND, U2 GND, U5 GND, U6 GND, U9 GND, U11 GND, U12 VDDCORE, U13 GND, U14 VDDCORE, U15 GND, U16 VDDCORE, U17 GND, U18 VDDCORE, U19 GND, U20 VDDCORE, U21 GND, U22 VDDCORE, U23 GND, U24 VDDCORE, U25 GND, U26 VDDCORE, U27 GND, U28 VDDCORE, U36 GND, U41 GND, V3 GND, V7 GND, V9 GND, V11 GND, V12 GND, V13 VDDCORE, V14 GND, V15 VDDCORE, V16 GND, V17 VDDCORE, V18 GND, V19 VDDCORE, V20 GND, V21 VDDCORE, V22 GND, V23 VDDCORE, V24 GND, V25 VDDCORE, V26 GND, V27 VDDCORE, V28 GND, V29 VDDCORE, W1 GND, W2 GND, W5 GND, W6 GND, W11 GND, W12 VDDCORE, W13 GND, W14 VDDCORE, W15 GND, W16 VDDCORE, W17 GND, W18 VDDCORE, W19 GND, W20 VDDCORE, W21 GND, W22 VDDCORE, W23 GND, W24 VDDCORE, W25 GND, W26 VDD1V8A, W27 VDD1V8A, W28 VDDCORE, W29 GND, W31 GND, W33 GND, Y3 GND, Y7 GND, Y11 GND, Y12 GND, Y13 VDDCORE, Y14 GND, Y15 VDDCORE, Y16 GND, Y17 VDDCORE, Y18 GND, Y19 VDDCORE, Y20 GND, Y21 VDDCORE, Y22 GND, Y23 VDDCORE, Y24 GND, Y25 VDDCORE, Y26 VDD1V8A, Y27 VDD1V8A, Y28 GND, Y29 VDDCORE, Y30 GND, Y32 GND, Y34 GND, Y38 GND
part N pins: AP1 HSSL0_TX3_N, AP2 HSSL0_TX3_P, AP4 HSSL0_VDDA, AP5 HSSL0_RX3_N, AP6 HSSL0_RX3_P, AP8 HSSL0_VDD1V8A, AP10 HSSL0_D_VDD, AR3 HSSL0_TX2_N, AR4 HSSL0_TX2_P, AR7 HSSL0_RX2_N, AR8 HSSL0_RX2_P, AR9 HSSL0_CKREF_P, AR10 HSSL0_D_VDD, AT1 HSSL0_TX1_N, AT2 HSSL0_TX1_P, AT4 HSSL0_VDDA, AT5 HSSL0_RX1_N, AT6 HSSL0_RX1_P, AT8 HSSL0_VDD1V8A, AT9 HSSL0_CKREF_N, AT10 HSSL0_D_VDD, AU3 HSSL0_TX0_N, AU4 HSSL0_TX0_P, AU7 HSSL0_RX0_N, AU8 HSSL0_RX0_P, AU10 HSSL0_CALIBRATE
part O pins: AK1 HSSL1_TX3_N, AK2 HSSL1_TX3_P, AK4 HSSL1_VDDA, AK5 HSSL1_RX3_N, AK6 HSSL1_RX3_P, AK8 HSSL1_VDD1V8A, AK10 HSSL1_D_VDD, AL3 HSSL1_TX2_N, AL4 HSSL1_TX2_P, AL7 HSSL1_RX2_N, AL8 HSSL1_RX2_P, AL9 HSSL1_CKREF_P, AL10 HSSL1_D_VDD, AM1 HSSL1_TX1_N, AM2 HSSL1_TX1_P, AM4 HSSL1_VDDA, AM5 HSSL1_RX1_N, AM6 HSSL1_RX1_P, AM8 HSSL1_VDD1V8A, AM9 HSSL1_CKREF_N, AM10 HSSL1_D_VDD, AN3 HSSL1_TX0_N, AN4 HSSL1_TX0_P, AN7 HSSL1_RX0_N, AN8 HSSL1_RX0_P, AN10 HSSL1_CALIBRATE
part P pins: AF1 HSSL2_TX3_N, AF2 HSSL2_TX3_P, AF4 HSSL2_VDDA, AF5 HSSL2_RX3_N, AF6 HSSL2_RX3_P, AF8 HSSL2_VDD1V8A, AF10 HSSL2_D_VDD, AG3 HSSL2_TX2_N, AG4 HSSL2_TX2_P, AG7 HSSL2_RX2_N, AG8 HSSL2_RX2_P, AG9 HSSL2_CKREF_P, AG10 HSSL2_D_VDD, AH1 HSSL2_TX1_N, AH2 HSSL2_TX1_P, AH4 HSSL2_VDDA, AH5 HSSL2_RX1_N, AH6 HSSL2_RX1_P, AH8 HSSL2_VDD1V8A, AH9 HSSL2_CKREF_N, AH10 HSSL2_D_VDD, AJ3 HSSL2_TX0_N, AJ4 HSSL2_TX0_P, AJ7 HSSL2_RX0_N, AJ8 HSSL2_RX0_P, AJ10 HSSL2_CALIBRATE
part Q pins: AB1 HSSL3_TX3_N, AB2 HSSL3_TX3_P, AB4 HSSL3_VDDA, AB5 HSSL3_RX3_N, AB6 HSSL3_RX3_P, AB8 HSSL3_VDD1V8A, AB10 HSSL3_D_VDD, AC3 HSSL3_TX2_N, AC4 HSSL3_TX2_P, AC7 HSSL3_RX2_N, AC8 HSSL3_RX2_P, AC9 HSSL3_CKREF_P, AC10 HSSL3_D_VDD, AD1 HSSL3_TX1_N, AD2 HSSL3_TX1_P, AD4 HSSL3_VDDA, AD5 HSSL3_RX1_N, AD6 HSSL3_RX1_P, AD8 HSSL3_VDD1V8A, AD9 HSSL3_CKREF_N, AD10 HSSL3_D_VDD, AE3 HSSL3_TX0_N, AE4 HSSL3_TX0_P, AE7 HSSL3_RX0_N, AE8 HSSL3_RX0_P, AE10 HSSL3_CALIBRATE
part R pins: AA3 HSSL4_TX0_N, AA4 HSSL4_TX0_P, AA7 HSSL4_RX0_N, AA8 HSSL4_RX0_P, AA10 HSSL4_CALIBRATE, V1 HSSL4_TX3_N, V2 HSSL4_TX3_P, V4 HSSL4_VDDA, V5 HSSL4_RX3_N, V6 HSSL4_RX3_P, V8 HSSL4_VDD1V8A, V10 HSSL4_D_VDD, W3 HSSL4_TX2_N, W4 HSSL4_TX2_P, W7 HSSL4_RX2_N, W8 HSSL4_RX2_P, W9 HSSL4_CKREF_P, W10 HSSL4_D_VDD, Y1 HSSL4_TX1_N, Y2 HSSL4_TX1_P, Y4 HSSL4_VDDA, Y5 HSSL4_RX1_N, Y6 HSSL4_RX1_P, Y8 HSSL4_VDD1V8A, Y9 HSSL4_CKREF_N, Y10 HSSL4_D_VDD
part S pins: P1 HSSL5_TX3_N, P2 HSSL5_TX3_P, P4 HSSL5_VDDA, P5 HSSL5_RX3_N, P6 HSSL5_RX3_P, P8 HSSL5_VDD1V8A, P10 HSSL5_D_VDD, R3 HSSL5_TX2_N, R4 HSSL5_TX2_P, R7 HSSL5_RX2_N, R8 HSSL5_RX2_P, R9 HSSL5_CKREF_P, R10 HSSL5_D_VDD, T1 HSSL5_TX1_N, T2 HSSL5_TX1_P, T4 HSSL5_VDDA, T5 HSSL5_RX1_N, T6 HSSL5_RX1_P, T8 HSSL5_VDD1V8A, T9 HSSL5_CKREF_N, T10 HSSL5_D_VDD, U3 HSSL5_TX0_N, U4 HSSL5_TX0_P, U7 HSSL5_RX0_N, U8 HSSL5_RX0_P, U10 HSSL5_CALIBRATE
part T pins: K1 HSSL6_TX3_N, K2 HSSL6_TX3_P, K4 HSSL6_VDDA, K5 HSSL6_RX3_N, K6 HSSL6_RX3_P, K8 HSSL6_VDD1V8A, K10 HSSL6_D_VDD, L3 HSSL6_TX2_N, L4 HSSL6_TX2_P, L7 HSSL6_RX2_N, L8 HSSL6_RX2_P, L9 HSSL6_CKREF_P, L10 HSSL6_D_VDD, M1 HSSL6_TX1_N, M2 HSSL6_TX1_P, M4 HSSL6_VDDA, M5 HSSL6_RX1_N, M6 HSSL6_RX1_P, M8 HSSL6_VDD1V8A, M9 HSSL6_CKREF_N, M10 HSSL6_D_VDD, N3 HSSL6_TX0_N, N4 HSSL6_TX0_P, N7 HSSL6_RX0_N, N8 HSSL6_RX0_P, N10 HSSL6_CALIBRATE
part U pins: F1 HSSL7_TX3_N, F2 HSSL7_TX3_P, F4 HSSL7_VDDA, F5 HSSL7_RX3_N, F6 HSSL7_RX3_P, F8 HSSL7_VDD1V8A, F10 HSSL7_D_VDD, G3 HSSL7_TX2_N, G4 HSSL7_TX2_P, G7 HSSL7_RX2_N, G8 HSSL7_RX2_P, G9 HSSL7_CKREF_P, G10 HSSL7_D_VDD, H1 HSSL7_TX1_N, H2 HSSL7_TX1_P, H4 HSSL7_VDDA, H5 HSSL7_RX1_N, H6 HSSL7_RX1_P, H8 HSSL7_VDD1V8A, H9 HSSL7_CKREF_N, H10 HSSL7_D_VDD, J3 HSSL7_TX0_N, J4 HSSL7_TX0_P, J7 HSSL7_RX0_N, J8 HSSL7_RX0_P, J10 HSSL7_CALIBRATE
part A text: Service Bank; BSCAN 1; BSCAN 0
part B text: Bank 0; Bank 1; Simple Banks
part C text: Bank 6; Bank 7; Simple Banks
part D text: BANK 2; BANK 3; Complex Banks
part E text: BANK 4; BANK 5; Complex Banks
part F text: BANK 8; BANK 9; Complex Banks
part G text: BANK 10; Complex Banks
part H text: BANK 11; Complex Banks
part I text: BANK 12; BANK 13; Complex Banks
part J text: DDR CTRL 1; SOC DDR INT.
part K text: DDR MODE CTRL N°2
part L text: SOC power; SOC DDR power
part M text: Power Pins eFPGA
part N text: HSSL 0
part O text: HSSL 1
part P text: HSSL 2
part Q text: HSSL 3

## NX3DV42GU,115
designator U?
USB2.0 HS DPDT Switch; Manufacturer: NXP Semiconductors; Manufacturer Part Number: NX3DV42GU,115
footprint XQFN-10_SOT1160-1
pins: 1 D+, 2 D-, 3 GND, 4 HSD1-, 5 HSD1+, 6 HSD2-, 7 HSD2+, 8 ~{OE}, 9 VCC, 10 S

## OS102011MA1QN1
designator SW?
Slide Switch SPDT Horizontal THT; Manufacturer: C&K; Manufacturer Part Number: OS102011MA1QN1
footprint OS102011MA1QN1
pins: 1, 2 COM, 3

## P0915N-EC15BR10K
designator P?, comment 10k
Potentiometer Vertical 10k Linear Taper THT PCB-Mount Smooth Shaft w/ Slot D=6mm L=15mm; Manufacturer: TT Electronics; Manufacturer Part Number: P0915N-EC15BR10K
footprint P0915N-EC15BR10K
pins: 1, 2, 3, MH
text: LIN

## PAD_SQ_2MM
designator TP?, comment Pad  (no BOM)
Test Point Square 2mm
footprint PAD_SQ_2MM
pins: 1

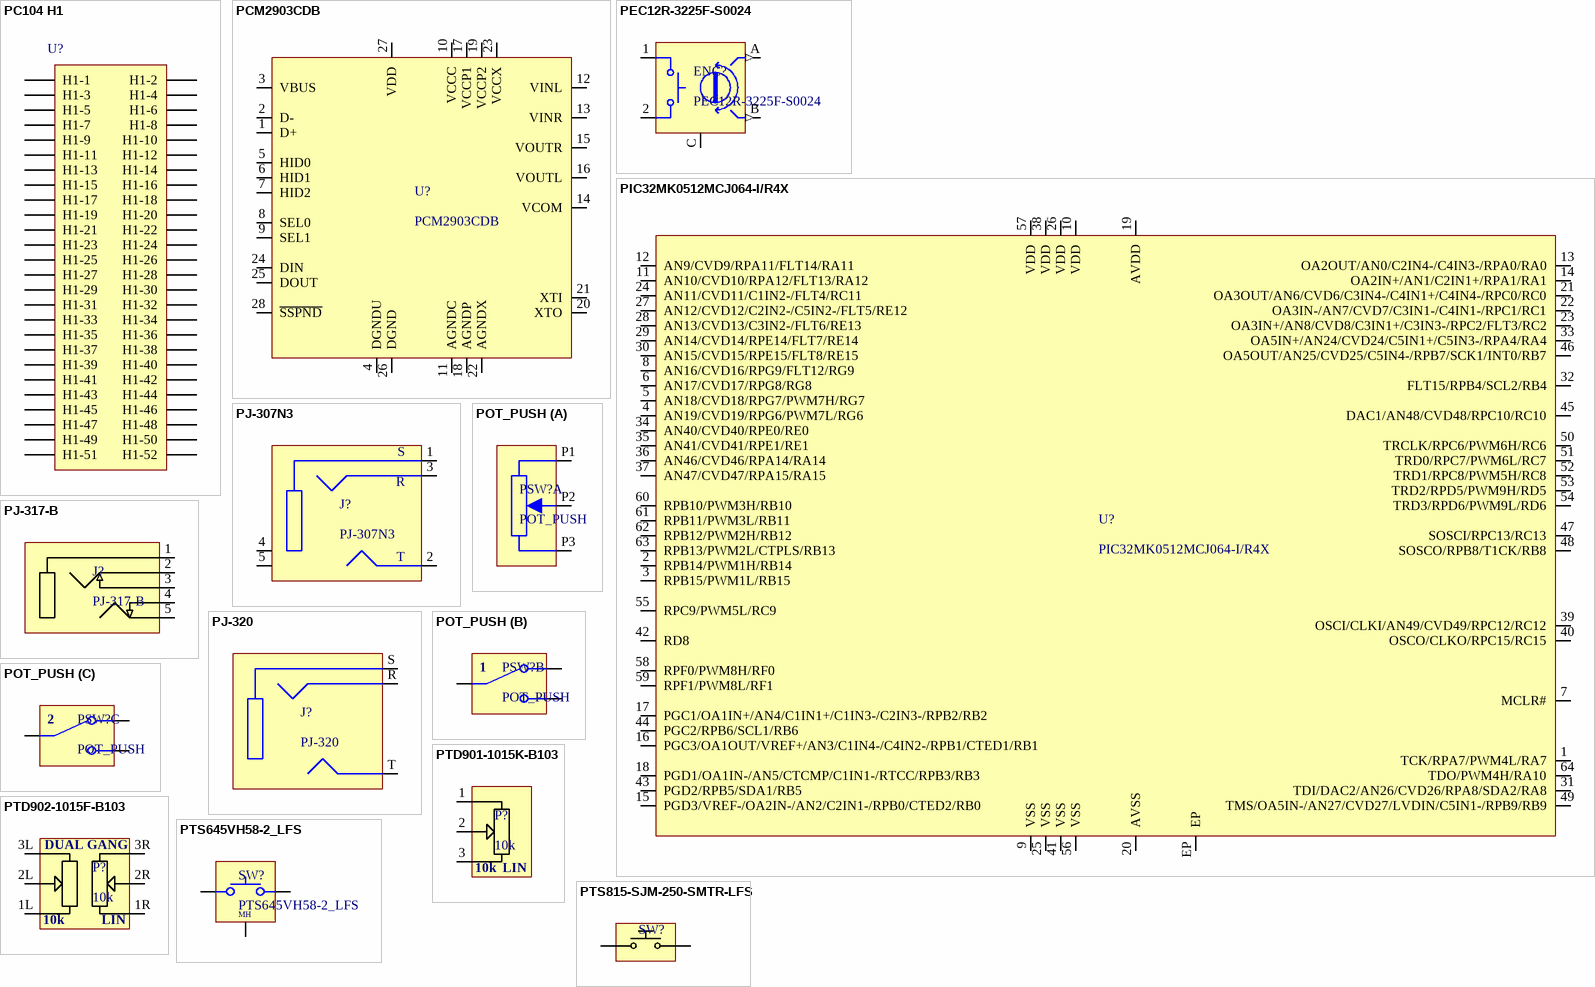
[diagram p29: symbols PC104 H1 to PTS815-SJM-250-SMTR-LFS]

## PC104 H1
designator U?
PC104; Partnumber: ESQ-126-39-G-D
footprint PC104 H1 (Connector; Header; 26x4 Position)
pins: H1-1, H1-2, H1-3, H1-4, H1-5, H1-6, H1-7, H1-8, H1-9, H1-10, H1-11, H1-12, H1-13, H1-14, H1-15, H1-16, H1-17, H1-18, H1-19, H1-20, H1-21, H1-22, H1-23, H1-24, H1-25, H1-26, H1-27, H1-28, H1-29, H1-30, H1-31, H1-32, H1-33, H1-34, H1-35, H1-36, H1-37, H1-38, H1-39, H1-40, H1-41, H1-42, H1-43, H1-44, H1-45, H1-46, H1-47, H1-48, H1-49, H1-50, H1-51, H1-52

## PCM2903CDB
designator U?
Stereo USB1.1 CODEC with line-out and S/PDIF I/O, Self-powered (HID Interface); Manufacturer: Texas Instruments; Manufacturer Part Number: PCM2903CDB
footprint SSOP-28
pins: 1 D+, 2 D-, 3 VBUS, 4 DGNDU, 5 HID0, 6 HID1, 7 HID2, 8 SEL0, 9 SEL1, 10 VCCC, 11 AGNDC, 12 VINL, 13 VINR, 14 VCOM, 15 VOUTR, 16 VOUTL, 17 VCCP1, 18 AGNDP, 19 VCCP2, 20 XTO, 21 XTI, 22 AGNDX, 23 VCCX, 24 DIN, 25 DOUT, 26 DGND, 27 VDD, 28 ~{SSPND}

## PEC12R-3225F-S0024
designator ENC?
Rotary Encoder with Switch 20 Detents 7mm Bushing 20mm Threaded Shaft Vertical; Manufacturer: Bourns; Manufacturer Part Number: PEC12R-3225F-S0024; Distributor Link: https://www.mouser.de/ProductDetail/Bourns/PEC12R-3225F-S0024?qs=%252B9%2Fcbd0IE0RkGCm1rUs7CA%3D%3D
footprint PEC12R-3225F-S
pins: 1, 2, A (out), B (out), C GND (power)

## PIC32MK0512MCJ064-I/R4X
designator U?
32-bit Motor Control Application MCU with CAN FD, FPU, ECC Flash, 512kB Flash, 64kB SRAM, and Op amps; Manufacturer: Microchip; Manufacturer Part Number: PIC32MK0512MCJ064-I/R4X
footprint QFN-64-9x9x0.9-0.5P (QFN, 64-Leads, Body 9.00x9.00mm, Pitch 0.50mm, Thermal Pad 5.40x5.40mm, IPC Medium Density)
pins: 1 TCK/RPA7/PWM4L/RA7, 2 RPB14/PWM1H/RB14, 3 RPB15/PWM1L/RB15, 4 AN19/CVD19/RPG6/PWM7L/RG6, 5 AN18/CVD18/RPG7/PWM7H/RG7, 6 AN17/CVD17/RPG8/RG8, 7 MCLR#, 8 AN16/CVD16/RPG9/FLT12/RG9, 9 VSS (power), 10 VDD (power), 11 AN10/CVD10/RPA12/FLT13/RA12, 12 AN9/CVD9/RPA11/FLT14/RA11, 13 OA2OUT/AN0/C2IN4-/C4IN3-/RPA0/RA0, 14 OA2IN+/AN1/C2IN1+/RPA1/RA1, 15 PGD3/VREF-/OA2IN-/AN2/C2IN1-/RPB0/CTED2/RB0, 16 PGC3/OA1OUT/VREF+/AN3/C1IN4-/C4IN2-/RPB1/CTED1/RB1, 17 PGC1/OA1IN+/AN4/C1IN1+/C1IN3-/C2IN3-/RPB2/RB2, 18 PGD1/OA1IN-/AN5/CTCMP/C1IN1-/RTCC/RPB3/RB3, 19 AVDD (power), 20 AVSS (power), 21 OA3OUT/AN6/CVD6/C3IN4-/C4IN1+/C4IN4-/RPC0/RC0, 22 OA3IN-/AN7/CVD7/C3IN1-/C4IN1-/RPC1/RC1, 23 OA3IN+/AN8/CVD8/C3IN1+/C3IN3-/RPC2/FLT3/RC2, 24 AN11/CVD11/C1IN2-/FLT4/RC11, 25 VSS (power), 26 VDD (power), 27 AN12/CVD12/C2IN2-/C5IN2-/FLT5/RE12, 28 AN13/CVD13/C3IN2-/FLT6/RE13, 29 AN14/CVD14/RPE14/FLT7/RE14, 30 AN15/CVD15/RPE15/FLT8/RE15, 31 TDI/DAC2/AN26/CVD26/RPA8/SDA2/RA8, 32 FLT15/RPB4/SCL2/RB4, 33 OA5IN+/AN24/CVD24/C5IN1+/C5IN3-/RPA4/RA4, 34 AN40/CVD40/RPE0/RE0, 35 AN41/CVD41/RPE1/RE1, 36 AN46/CVD46/RPA14/RA14, 37 AN47/CVD47/RPA15/RA15, 38 VDD (power), 39 OSCI/CLKI/AN49/CVD49/RPC12/RC12, 40 OSCO/CLKO/RPC15/RC15, 41 VSS (power), 42 RD8, 43 PGD2/RPB5/SDA1/RB5, 44 PGC2/RPB6/SCL1/RB6, 45 DAC1/AN48/CVD48/RPC10/RC10, 46 OA5OUT/AN25/CVD25/C5IN4-/RPB7/SCK1/INT0/RB7, 47 SOSCI/RPC13/RC13, 48 SOSCO/RPB8/T1CK/RB8, 49 TMS/OA5IN-/AN27/CVD27/LVDIN/C5IN1-/RPB9/RB9, 50 TRCLK/RPC6/PWM6H/RC6, 51 TRD0/RPC7/PWM6L/RC7, 52 TRD1/RPC8/PWM5H/RC8, 53 TRD2/RPD5/PWM9H/RD5, 54 TRD3/RPD6/PWM9L/RD6, 55 RPC9/PWM5L/RC9, 56 VSS (power), 57 VDD (power), 58 RPF0/PWM8H/RF0, 59 RPF1/PWM8L/RF1, 60 RPB10/PWM3H/RB10, 61 RPB11/PWM3L/RB11, 62 RPB12/PWM2H/RB12, 63 RPB13/PWM2L/CTPLS/RB13, 64 TDO/PWM4H/RA10, EP (power)

## PJ-307N3
designator J?
3.5mm Headphone Jack THT; Manufacturer: XKB Connectivity; Manufacturer Part Number: PJ-307N3
footprint PJ-307N3
pins: 1 Sleeve, 2 Tip, 3 Ring, 4 NC, 5 NC
text: S; R; T

## PJ-317-B
designator J?
3.5mm 5-Position Audio Jack Horizontal Female THT; Manufacturer: XKB; Manufacturer Part Number: PJ-317-B
footprint PJ-317-B
pins: 1, 2, 3, 4, 5

## PJ-320
designator J?
3.5mm Headphone Jack THT; Manufacturer: XKB Connectivity; Manufacturer Part Number: PJ-320
footprint PJ-320
pins: R Ring, S Sleeve, T Tip

## POT_PUSH
designator PSW?
Potentiometer Push-Pull/Push-Push Through-Hole Generic; Manufacturer: *; Manufacturer Part Number: *
footprint POT_PUSH
part A pins: P1 1, P2 2, P3 3
part B pins: SW1COM COM, SW1NC NC, SW1NO NO
part C pins: SW2COM COM, SW2NC NC, SW2NO NO

## PTD901-1015K-B103
designator P?, comment 10k
Potentiometer Horizontal 10k Linear Taper 10% Knurled Shaft THT PCB-Mount; Manufacturer: Bourns; Manufacturer Part Number: PTD901-1015K-B103; Distributor Link: https://eu.mouser.com/ProductDetail/Bourns/PTD901-1015K-B103?qs=h2IHEVivlqCjfZBh0jm4Mw%3D%3D
footprint PTD901-XX15K
pins: 1, 2, 3
text: LIN

## PTD902-1015F-B103
designator P?, comment 10k
Potentiometer Horizontal 10k Dual Gang Linear Taper 10% THT PCB-Mount; Manufacturer: Bourns; Manufacturer Part Number: PTD902-1015F-B103
footprint PTD902-XX15F
pins: 1L 1, 1R 1, 2L 2, 2R 2, 3L 3, 3R 3
text: DUAL GANG; LIN

## PTS645VH58-2_LFS
designator SW?
Tactile Switch THT Right-Angle; Manufacturer: C&K; Manufacturer Part Number: PTS645VH58-2 LFS; Distributor Link: https://www.mouser.de/ProductDetail/CK/PTS645VH58-2-LFS?qs=rqnA19JZHeRF88sNwv94nA%3D%3D
footprint PTS645VH58-2-LFS
pins: 1, 2, MH

## PTS815-SJM-250-SMTR-LFS
designator SW?, comment Tactile Switch  (value not drawn)
Tactile Switches Tact Switch, 12 VDC, 50 mA, 4.2x3.2, 2.5mm H, 180gf, J leadspp SPST; Manufacturer: C&K Switches; Manufacturer Part Number: PTS815 SJM 250 SMTR LFS
footprint PTS815
pins: 1, 2

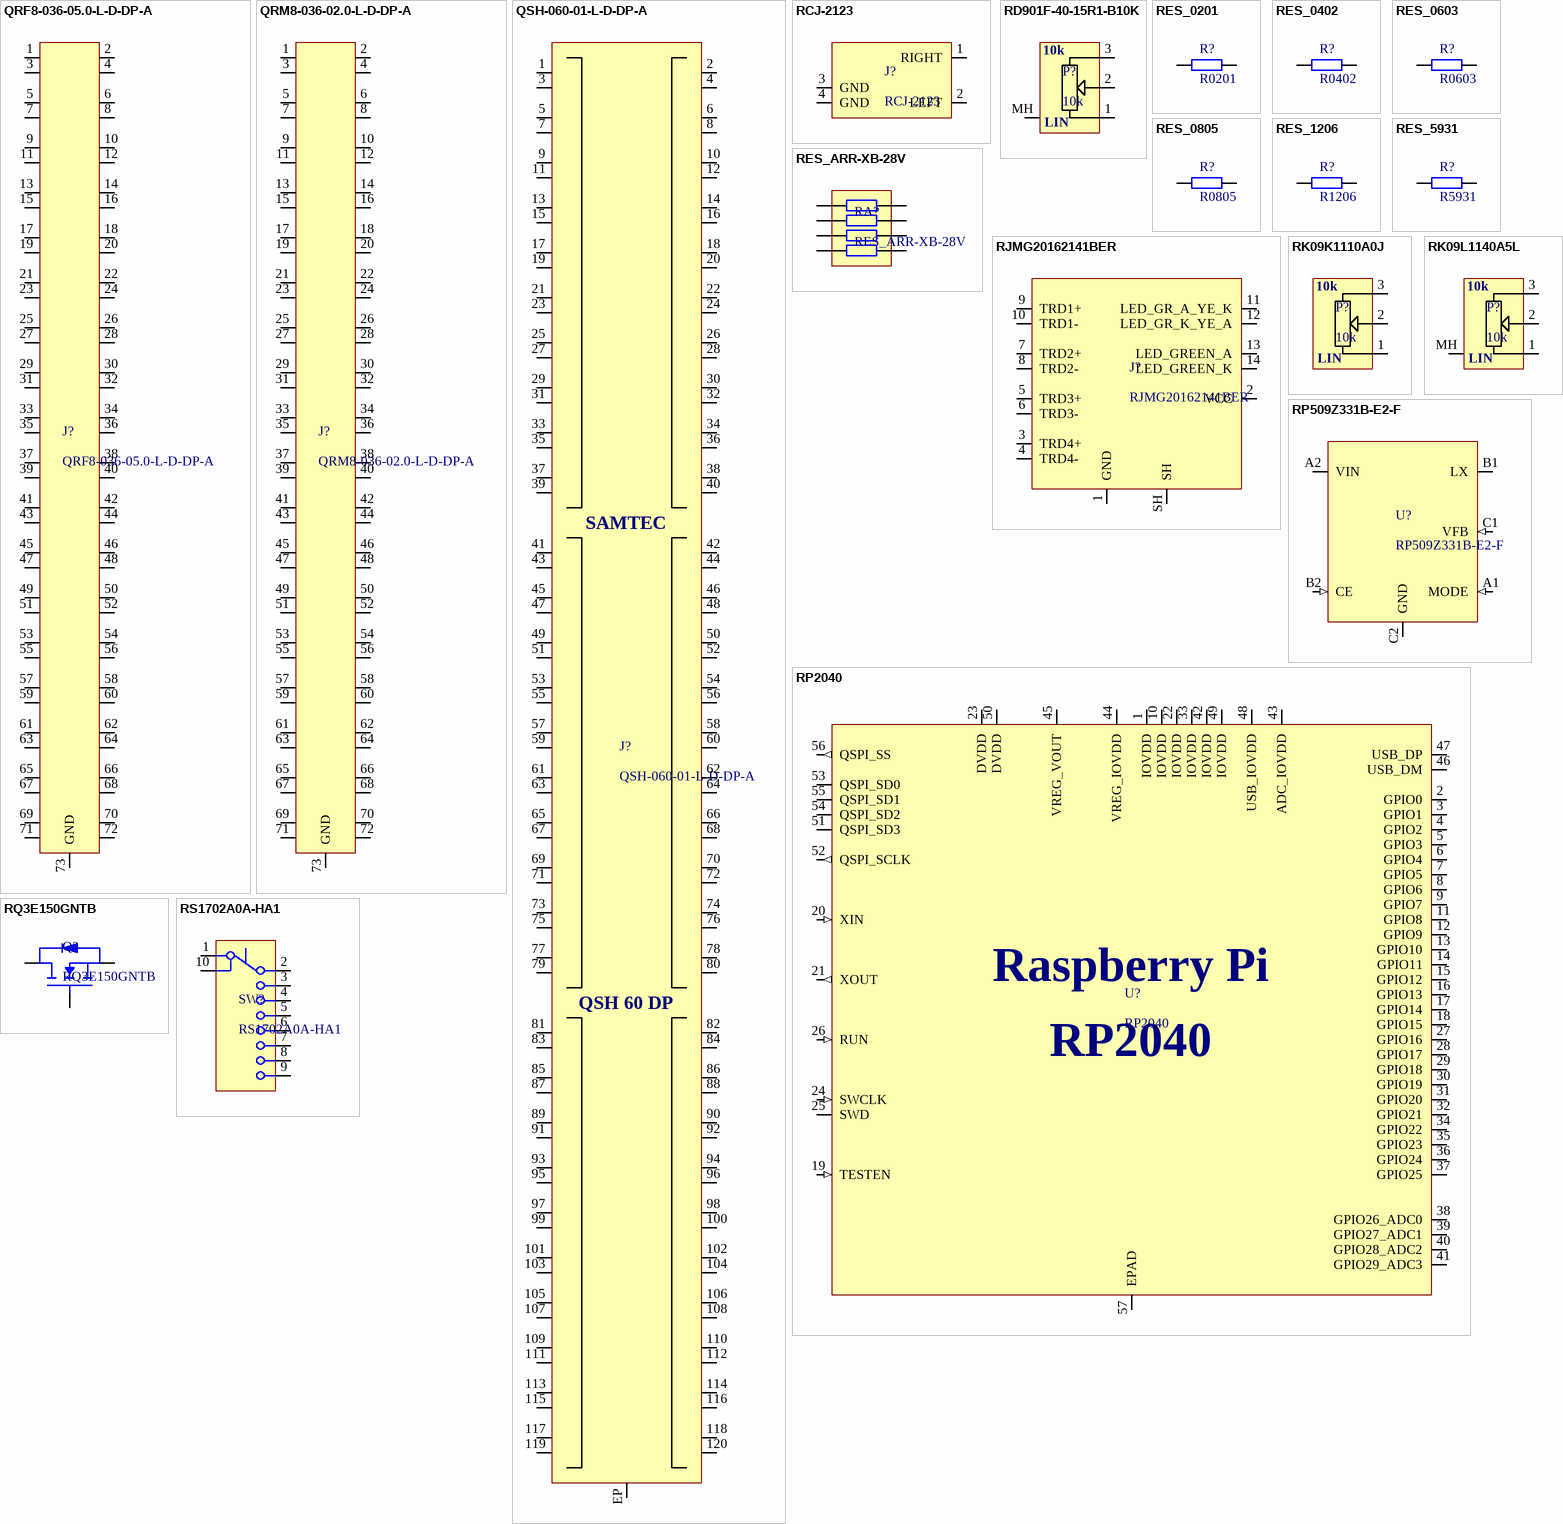
[diagram p30: symbols QRF8-036-05.0-L-D-DP-A to RS1702A0A-HA1]

## QRF8-036-05.0-L-D-DP-A
designator J?
Board to Board & Mezzanine Connectors 0.80 mm Q Rate Slim Body Ground Plane Socket; Manufacturer: Samtec; Manufacturer Part Number: QRF8-036-05.0-L-D-DP-A
footprint QRF8-036-05.0-X-D-DP-A
pins: 1, 2, 3, 4, 5, 6, 7, 8, 9, 10, 11, 12, 13, 14, 15, 16, 17, 18, 19, 20, 21, 22, 23, 24, 25, 26, 27, 28, 29, 30, 31, 32, 33, 34, 35, 36, 37, 38, 39, 40, 41, 42, 43, 44, 45, 46, 47, 48, 49, 50, 51, 52, 53, 54, 55, 56, 57, 58, 59, 60, 61, 62, 63, 64, 65, 66, 67, 68, 69, 70, 71, 72, 73 GND

## QRM8-036-02.0-L-D-DP-A
designator J?
Board to Board & Mezzanine Connectors 0.80 mm Q Rate Slim Body Ground Plane Header; Manufacturer: Samtec; Manufacturer Part Number: QRM8-036-02.0-L-D-DP-A
footprint QRM8-036-02.0-L-D-DP-A
pins: 1, 2, 3, 4, 5, 6, 7, 8, 9, 10, 11, 12, 13, 14, 15, 16, 17, 18, 19, 20, 21, 22, 23, 24, 25, 26, 27, 28, 29, 30, 31, 32, 33, 34, 35, 36, 37, 38, 39, 40, 41, 42, 43, 44, 45, 46, 47, 48, 49, 50, 51, 52, 53, 54, 55, 56, 57, 58, 59, 60, 61, 62, 63, 64, 65, 66, 67, 68, 69, 70, 71, 72, 73 GND

## QSH-060-01-L-D-DP-A
designator J?
0.50 mm Q Pairs® High-Speed Ground Plane Socket Strip, Differential Pair 120 Positions; Manufacturer: Samtec; Manufacturer Part Number: QSH-060-01-L-D-DP-A
footprint QSH-060-01-L-D-DP-A
pins: 1, 2, 3, 4, 5, 6, 7, 8, 9, 10, 11, 12, 13, 14, 15, 16, 17, 18, 19, 20, 21, 22, 23, 24, 25, 26, 27, 28, 29, 30, 31, 32, 33, 34, 35, 36, 37, 38, 39, 40, 41, 42, 43, 44, 45, 46, 47, 48, 49, 50, 51, 52, 53, 54, 55, 56, 57, 58, 59, 60, 61, 62, 63, 64, 65, 66, 67, 68, 69, 70, 71, 72, 73, 74, 75, 76, 77, 78, 79, 80, 81, 82, 83, 84, 85, 86, 87, 88, 89, 90, 91, 92, 93, 94, 95, 96, 97, 98, 99, 100, 101, 102, 103, 104, 105, 106, 107, 108, 109, 110, 111, 112, 113, 114, 115, 116, 117, 118, 119, 120, EP
text: SAMTEC; QSH 60 DP

## RCJ-2123
designator J?
RCA Phono Connectors Dual Red White PCB Mount RIght-Angle THT; Manufacturer: CUI; Manufacturer Part Number: RCJ-2123
footprint RCJ-2123
pins: 1 RIGHT, 2 LEFT, 3 GND, 4 GND

## RD901F-40-15R1-B10K
designator P?, comment 10k
Potentiometer Vertical 10k 20% Linear Taper THT PCB-Mount 6/15mm Shaft Smooth; Manufacturer: Alps Alpine; Manufacturer Part Number: RD901F-40-15R1-B10K; Distributor Link: https://www.mouser.de/ProductDetail/Alpha-Taiwan/RD901F-40-15R1-B10K-00DL1?qs=1mbolxNpo8c1WX5KjxIjjw%3D%3D
footprint RD901F-40-15R1
pins: 1, 2, 3, MH
text: LIN

## RES_0201
designator R?, comment R0201
Resistor SMD 0201; Manufacturer: *; Manufacturer Part Number: *; Distributor Link: *; LCSC: *
footprint RES_0201
pins: 1, 2

## RES_0402
designator R?, comment R0402
Resistor SMD 0402; Manufacturer: *; Manufacturer Part Number: *; Distributor Link: *; LCSC: *
footprint RES_0402
pins: 1, 2

## RES_0603
designator R?, comment R0603
Resistor SMD 0603; Manufacturer: *; Manufacturer Part Number: *; Distributor Link: *; LCSC: *
footprint RES_0603
pins: 1, 2

## RES_0805
designator R?, comment R0805
Resistor SMD 0805; Manufacturer: *; Manufacturer Part Number: *; Distributor Link: *; LCSC: *
footprint RES_0805
pins: 1, 2

## RES_1206
designator R?, comment R1206
Resistor SMD 1206; Manufacturer: *; Manufacturer Part Number: *; Distributor Link: *; LCSC: *
footprint RES_1206
pins: 1, 2

## RES_5931
designator R?, comment R5931
Current Sense Resistor SMD 0805; Manufacturer: *; Manufacturer Part Number: *; Distributor Link: *
footprint RES_5931
pins: 1, 2

## RES_ARR-XB-28V
designator RA?
Resistor Array 0402 4 Elements Panasonic EXB-28V; Manufacturer: Panasonic
footprint EXB-28V
pins: 1, 2, 3, 4, 5, 6, 7, 8

## RJMG20162141BER
designator J?
100/1000Base-T Magnetics Single-Port RJ45 Connector with Integrated Magnetics and LEDs; Manufacturer: Amphenol; Manufacturer Part Number: RJMG20162141BER; Distributor Link: https://www.mouser.de/ProductDetail/Amphenol-Commercial-Products/RJMG20162141BER?qs=AVT0UMTfAuItaMrM1bOyzg%3D%3D; LCSC: C5433552
footprint RJMG20162141BER
pins: 1 GND, 2 VCC, 3 TRD4+ (io), 4 TRD4- (io), 5 TRD3+ (io), 6 TRD3- (io), 7 TRD2+ (io), 8 TRD2- (io), 9 TRD1+ (io), 10 TRD1- (io), 11 LED_GR_A_YE_K, 12 LED_GR_K_YE_A, 13 LED_GREEN_A, 14 LED_GREEN_K, SH

## RK09K1110A0J
designator P?, comment 10k
Potentiometer Horizontal 10k Linear Taper (1B) 20% THT PCB-Mount; Manufacturer: ALPSALPINE; Manufacturer Part Number: RK09K1110A0J
footprint RK09K1110A0J
pins: 1, 2, 3
text: LIN

## RK09L1140A5L
designator P?, comment 10k
Potentiometer Vertical 10k Linear Taper (1B) THT PCB-Mount D-Type 6mm Shaft; Manufacturer: Alps Alpine; Manufacturer Part Number: RK09L1140A5L
footprint RK09L1140A5L
pins: 1, 2, 3, MH
text: LIN

## RP509Z331B-E2-F
designator U?
0.5A/1A PWM/VFM Step-down DC/DC Converter with Synchronous Rectifier; Manufacturer: Nisshinbo; Manufacturer Part Number: RP509Z331B-E2-F; Distributor Link: https://www.mouser.de/ProductDetail/Nisshinbo/RP509Z331B-E2-F?qs=sGAEpiMZZMsMIqGZiACxIaRXO1%252BRokEQs7docw04LJAW9g0rX9qA6Q%3D%3D
footprint WLCSP-6-P6
pins: A1 MODE (in), A2 VIN (power), B1 LX (power), B2 CE (in), C1 VFB (in), C2 GND (power)

## RP2040
designator U?
32-Bit Dual-Core ARM Cortex-M0+ Microcontroller; Manufacturer: Raspberry Pi; Manufacturer Part Number: RP2040
footprint QFN-56-EP
pins: 1 IOVDD (power), 2 GPIO0 (io), 3 GPIO1 (io), 4 GPIO2 (io), 5 GPIO3 (io), 6 GPIO4 (io), 7 GPIO5 (io), 8 GPIO6 (io), 9 GPIO7 (io), 10 IOVDD (power), 11 GPIO8 (io), 12 GPIO9 (io), 13 GPIO10 (io), 14 GPIO11 (io), 15 GPIO12 (io), 16 GPIO13 (io), 17 GPIO14 (io), 18 GPIO15 (io), 19 TESTEN (in), 20 XIN (in), 21 XOUT (out), 22 IOVDD (power), 23 DVDD (power), 24 SWCLK (in), 25 SWD (io), 26 RUN (in), 27 GPIO16 (io), 28 GPIO17 (io), 29 GPIO18 (io), 30 GPIO19 (io), 31 GPIO20 (io), 32 GPIO21 (io), 33 IOVDD (power), 34 GPIO22 (io), 35 GPIO23 (io), 36 GPIO24 (io), 37 GPIO25 (io), 38 GPIO26_ADC0 (io), 39 GPIO27_ADC1 (io), 40 GPIO28_ADC2 (io), 41 GPIO29_ADC3 (io), 42 IOVDD (power), 43 ADC_IOVDD (power), 44 VREG_IOVDD (power), 45 VREG_VOUT (power), 46 USB_DM (io), 47 USB_DP (io), 48 USB_IOVDD (power), 49 IOVDD (power), 50 DVDD (power), 51 QSPI_SD3 (io), 52 QSPI_SCLK (out), 53 QSPI_SD0 (io), 54 QSPI_SD2 (io), 55 QSPI_SD1 (io), 56 QSPI_SS (out), 57 EPAD (power)

## RQ3E150GNTB
designator Q?
Nch 30V 39A Middle Power MOSFET; Manufacturer: ROHM; Manufacturer Part Number: RQ3E150GNTB
footprint HSMT-8
pins: D, G, S

## RS1702A0A-HA1
designator SW?
Rotarye Switch 10-Position THT; Manufacturer: Soundwell; Manufacturer Part Number: RS1702A0A-HA1
footprint RS1702A0A-HA1-5-012
pins: 1 COM, 2, 3, 4, 5, 6, 7, 8, 9, 10 COM

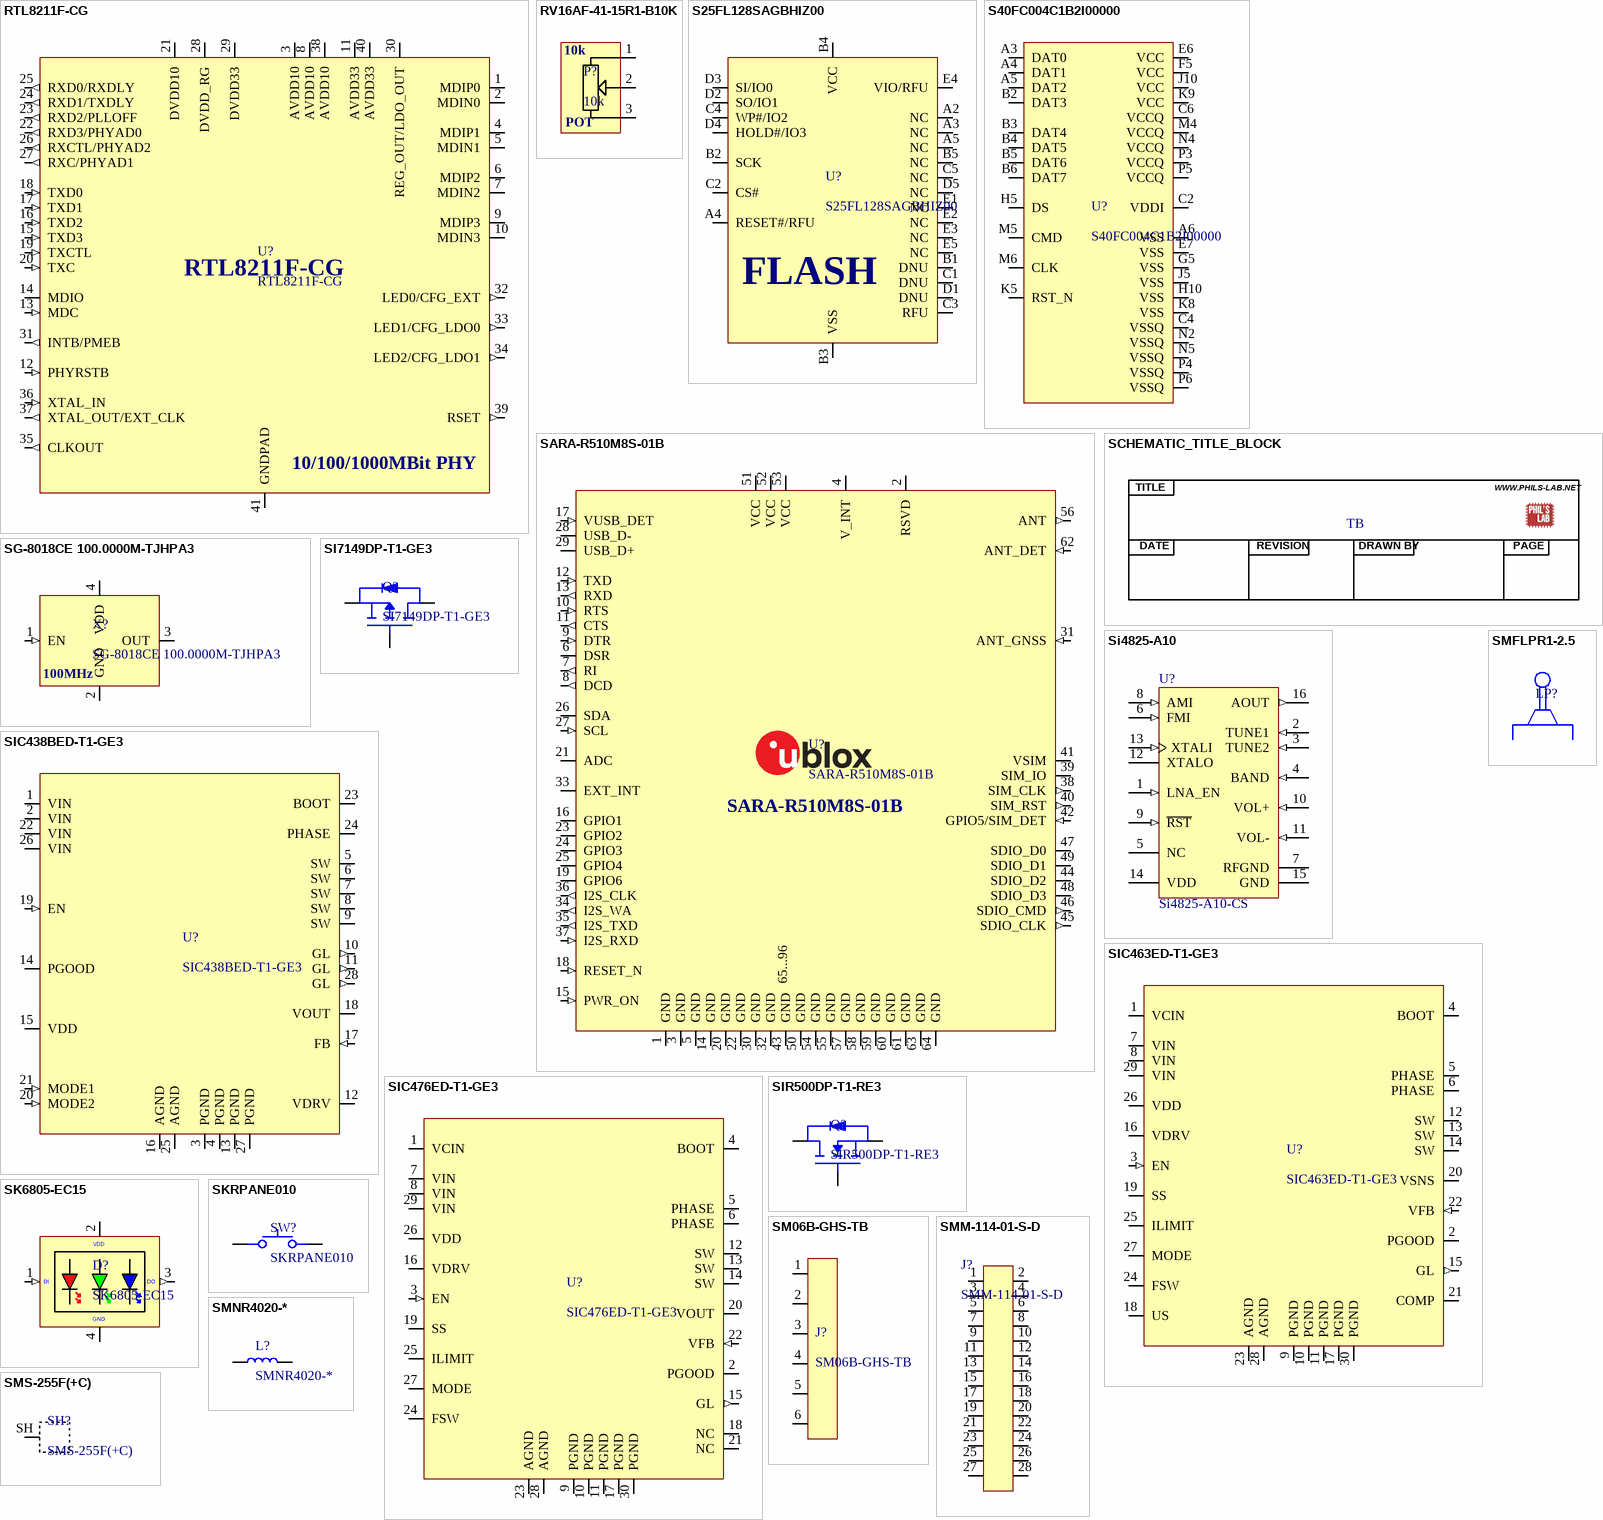
[diagram p31: symbols RTL8211F-CG to SMS-255F(+C)]

## RTL8211F-CG
designator U?
INTEGRATED 10/100/1000M ETHERNET PRECISION TRANSCEIVER; Manufacturer: Realtek; Manufacturer Part Number: RTL8211F-CG
footprint QFN-40-0.4-EP (QFN 40 Pads 0.4mm Pitch Thermal Pad)
pins: 1 MDIP0 (io), 2 MDIN0 (io), 3 AVDD10 (power), 4 MDIP1 (io), 5 MDIN1 (io), 6 MDIP2 (io), 7 MDIN2 (io), 8 AVDD10 (power), 9 MDIP3 (io), 10 MDIN3 (io), 11 AVDD33 (power), 12 PHYRSTB (in), 13 MDC (in), 14 MDIO (io), 15 TXD3 (in), 16 TXD2 (in), 17 TXD1 (in), 18 TXD0 (in), 19 TXCTL (in), 20 TXC (in), 21 DVDD10 (power), 22 RXD3/PHYAD0 (out), 23 RXD2/PLLOFF (out), 24 RXD1/TXDLY (out), 25 RXD0/RXDLY (out), 26 RXCTL/PHYAD2 (out), 27 RXC/PHYAD1 (out), 28 DVDD_RG (power), 29 DVDD33 (power), 30 REG_OUT/LDO_OUT (power), 31 INTB/PMEB (out), 32 LED0/CFG_EXT (out), 33 LED1/CFG_LDO0 (out), 34 LED2/CFG_LDO1 (out), 35 CLKOUT (out), 36 XTAL_IN (in), 37 XTAL_OUT/EXT_CLK (out), 38 AVDD10 (power), 39 RSET (out), 40 AVDD33 (power), 41 GNDPAD (power)
text: 10/100/1000MBit PHY

## RV16AF-41-15R1-B10K
designator P?, comment 10k
Potentiometer Vertical 10k THT Chassis-Mount 16mm; Manufacturer: Alpha; Manufacturer Part Number: RV16AF-41-15R1-B10K
footprint RV16AF-41-15R1-B10K
pins: 1, 2, 3
text: POT

## S25FL128SAGBHIZ00
designator U?
NOR Flash 128Mb 133MHz QSPl; Manufacturer: Cypress Semiconductor; Manufacturer Part Number: S25FL128SAGBHIZ00
footprint BGA25C100P5X5_600X800X120 (BGA, 25-Leads, Body 6.00x8.00mmx1.20mm, Pitch 1.00mm)
pins: A2 NC, A3 NC, A4 RESET#/RFU, A5 NC, B1 DNU, B2 SCK, B3 VSS, B4 VCC, B5 NC, C1 DNU, C2 CS#, C3 RFU, C4 WP#/IO2, C5 NC, D1 DNU, D2 SO/IO1, D3 SI/IO0, D4 HOLD#/IO3, D5 NC, E1 NC, E2 NC, E3 NC, E4 VIO/RFU, E5 NC
text: FLASH

## S40FC004C1B2I00000
designator U?
eMMC MLC Memory 4GB 3V3; Manufacturer: SkyHigh Memory; Manufacturer Part Number: S40FC004C1B2I00000
footprint VFBGA153-9.0x7.5x0.8
pins: A3 DAT0, A4 DAT1, A5 DAT2, A6 VSS, B2 DAT3, B3 DAT4, B4 DAT5, B5 DAT6, B6 DAT7, C2 VDDI, C4 VSSQ, C6 VCCQ, E6 VCC, E7 VSS, F5 VCC, G5 VSS, H5 DS, H10 VSS, J5 VSS, J10 VCC, K5 RST_N, K8 VSS, K9 VCC, M4 VCCQ, M5 CMD, M6 CLK, N2 VSSQ, N4 VCCQ, N5 VSSQ, P3 VCCQ, P4 VSSQ, P5 VCCQ, P6 VSSQ

## SARA-R510M8S-01B
designator U?
Secure Cloud LTE-M and NB-IoT combo module with integrated u-blox M8 GNSS receiver for multi-regional use; Manufacturer: u-blox; Manufacturer Part Number: SARA-R510M8S-01B; Distributor Link: https://www.mouser.de/ProductDetail/u-blox/SARA-R510M8S-01B?qs=QNEnbhJQKvYa3sxdFdDP4w%3D%3D&gclid=CjwKCAiAwc-dBhA7EiwAxPRylKnSUPShzCKShE4YmhLtKIzyKR1Hn1Ejf9z6DrhP0wlU82vCiLopnxoC6RgQAvD_BwE
footprint SARA-XX (GSM/GPRS and GSM/EGPRS/HSPA Cellular Module)
pins: 1 GND (power), 2 RSVD, 3 GND (power), 4 V_INT (power), 5 GND (power), 6 DSR (io), 7 RI (out), 8 DCD (out), 9 DTR (in), 10 RTS (in), 11 CTS (out), 12 TXD (in), 13 RXD (out), 14 GND (power), 15 PWR_ON (in), 16 GPIO1 (io), 17 VUSB_DET (in), 18 RESET_N (in), 19 GPIO6, 20 GND (power), 21 ADC (power), 22 GND (power), 23 GPIO2 (io), 24 GPIO3 (io), 25 GPIO4 (io), 26 SDA (io), 27 SCL (in), 28 USB_D- (io), 29 USB_D+ (io), 30 GND (power), 31 ANT_GNSS (in), 32 GND (power), 33 EXT_INT, 34 I2S_WA (out), 35 I2S_TXD (out), 36 I2S_CLK (out), 37 I2S_RXD (in), 38 SIM_CLK (out), 39 SIM_IO (io), 40 SIM_RST (out), 41 VSIM (power), 42 GPIO5/SIM_DET (in), 43 GND (power), 44 SDIO_D2 (io), 45 SDIO_CLK (out), 46 SDIO_CMD (out), 47 SDIO_D0 (io), 48 SDIO_D3 (io), 49 SDIO_D1 (io), 50 GND (power), 51 VCC (power), 52 VCC (power), 53 VCC (power), 54 GND (power), 55 GND (power), 56 ANT (out), 57 GND (power), 58 GND (power), 59 GND (power), 60 GND (power), 61 GND (power), 62 ANT_DET (in), 63 GND (power), 64 GND (power), 65 GND (power), 66 GND (power), 67 GND (power), 68 GND (power), 69 GND (power), 70 GND (power), 71 GND (power), 72 GND (power), 73 GND (power), 74 GND (power), 75 GND (power), 76 GND (power), 77 GND (power), 78 GND (power), 79 GND (power), 80 GND (power), 81 GND (power), 82 GND (power), 83 GND (power), 84 GND (power), 85 GND (power), 86 GND (power), 87 GND (power), 88 GND (power), 89 GND (power), 90 GND (power), 91 GND (power), 92 GND (power), 93 GND (power), 94 GND (power), 95 GND (power), 96 GND (power)
text: 65...96

## SCHEMATIC_TITLE_BLOCK
designator TB  (value not drawn)  (graphical)
Default Schematic Title Block (Phil's Lab)
text: TITLE; WWW.PHILS-LAB.NET; DATE; REVISION; DRAWN BY; PAGE

## SG-8018CE 100.0000M-TJHPA3
designator X?
Standard Clock Oscillators 100 MHz 1.8V-3.3V 15PF 50PPM 3.2mm x 2.5mm; Manufacturer: Epson; Manufacturer Part Number: SG-8018CE 100.0000M-TJHPA3
footprint XTAL_3225
pins: 1 EN (in), 2 GND (power), 3 OUT, 4 VDD (power)
text: 100MHz

## Si4825-A10
designator U?, comment Si4825-A10-CS
Broadcast Mechanical Tuning AM / FM / SW Radio Receiver, 0 to 70 degC, 16-pin SOIC, Tube; Manufacturer: Silicon Labs; Sub-Family: AM/FM, Shortwave, Longwave, Weather Band Receivers; RDS Support: FALSE; Mounting Technology: Surface Mount; ComponentLink1Description: Manufacturer URL; ComponentLink3Description: Package Specification; Code_JEDEC: MS-012; ComponentLink3URL: http://www.silabs.com/Support%20Documents/TechnicalDocs/si2401.pdf; ComponentLink2URL: http://www.silabs.com/Support Documents/TechnicalDocs/Si4825-A10.pdf; PartNumber: Si4825-A10-CS; ComponentLink2Description: Datasheet; DatasheetVersion: Rev. 1.0; PackageReference: SOIC-16-NB; ComponentLink1URL: http://www.silabs.com/; PackageDescription: 16-Pin Small-Outline Integrated Circuit, Body 9.9 x 3.9 mm, Pitch 1.27 mm; Code_IPC: J-STD-020
footprint SLAB-SOIC-16-NB_M (SOIC, 16-Leads, Body 9.9x3.9mm, Pitch 1.27mm, IPC Low Density)
footprint SLAB-SOIC-16-NB_N (SOIC, 16-Leads, Body 9.9x3.9mm, Pitch 1.27mm, IPC Medium Density)
footprint SLAB-SOIC-16-NB_L (SOIC, 16-Leads, Body 9.9x3.9mm, Pitch 1.27mm, IPC High Density)
pins: 1 LNA_EN (in) "Enable SW external LNA.", 2 TUNE1 (in) "Frequency tuning", 3 TUNE2 (in) "Frequency tuning", 4 BAND (in) "Band selection and de-emphasis selection", 5 NC "No connect. Leave floating.", 6 FMI (in) "FM RF inputs. FMI should be connected to the antenna trace.", 7 RFGND (power) "RF ground. Connect to ground plane on PCB.", 8 AMI (in) "AM RF input. AMI should be connected to the AM antenna.", 9 ~{RST} (in) "Device reset (active low) input", 10 VOL+ (in) "Volume button up", 11 VOL- (in) "Volume button down", 12 XTALO "Crystal oscillator output", 13 XTALI (in) "Crystal oscillator input/external reference clock input", 14 VDD (power) "Supply voltage. May be connected directly to battery.", 15 GND (power) "Ground. Connect to ground plane on PCB.", 16 AOUT (out) "Audio output"

## SI7149DP-T1-GE3
designator Q?
MOSFET P-Channel Vds=30V Id=50A Rds=5.2mR; Manufacturer: Vishay; Manufacturer Part Number: SI7149DP-T1-GE3
footprint PowerPAK-SO-8
pins: D, G, S

## SIC438BED-T1-GE3
designator U?
3 V to 28 V Input 8A microBUCK® DC/DC Converter; Manufacturer: Vishay; Manufacturer Part Number: SIC438BED-T1-GE3; Distributor Link: https://eu.mouser.com/ProductDetail/Vishay-Siliconix/SIC438BED-T1-GE3?qs=wd5RIQLrsJhAHAqoS3ITiQ%3D%3D; LCSC: C511430
footprint MLP44-24L
pins: 1 VIN (power), 2 VIN (power), 3 PGND (power), 4 PGND (power), 5 SW (power), 6 SW (power), 7 SW (power), 8 SW (power), 9 SW (power), 10 GL (out), 11 GL (out), 12 VDRV (power), 13 PGND (power), 14 PGOOD (oc), 15 VDD (power), 16 AGND (power), 17 FB (in), 18 VOUT (power), 19 EN (in), 20 MODE2 (in), 21 MODE1 (in), 22 VIN (power), 23 BOOT (power), 24 PHASE (power), 25 AGND (power), 26 VIN (power), 27 PGND (power), 28 GL (out)

## SIC463ED-T1-GE3
designator U?
4.5 V to 60 V Input, 4 A microBUCK® DC/DC Converter; Manufacturer: Vishay; Manufacturer Part Number: SIC463ED-T1-GE3
footprint MLP55-27L
pins: 1 VCIN (power), 2 PGOOD (oc), 3 EN (in), 4 BOOT (power), 5 PHASE (power), 6 PHASE (power), 7 VIN (power), 8 VIN (power), 9 PGND (power), 10 PGND (power), 11 PGND (power), 12 SW (power), 13 SW (power), 14 SW (power), 15 GL (out), 16 VDRV (power), 17 PGND (power), 18 US, 19 SS, 20 VSNS (power), 21 COMP, 22 VFB (in), 23 AGND (power), 24 FSW, 25 ILIMIT, 26 VDD (power), 27 MODE, 28 AGND (power), 29 VIN (power), 30 PGND (power)

## SIC476ED-T1-GE3
designator U?
4.5 V to 55 V Input, 3 A, 5 A, 8 A, 12 A microBUCK® DC/DC Converter; Manufacturer: Vishay; Manufacturer Part Number: SIC476ED-T1-GE3
footprint MLP55-27L
pins: 1 VCIN (power), 2 PGOOD (oc), 3 EN (in), 4 BOOT (power), 5 PHASE (power), 6 PHASE (power), 7 VIN (power), 8 VIN (power), 9 PGND (power), 10 PGND (power), 11 PGND (power), 12 SW (power), 13 SW (power), 14 SW (power), 15 GL (out), 16 VDRV (power), 17 PGND (power), 18 NC, 19 SS, 20 VOUT (power), 21 NC, 22 VFB (in), 23 AGND (power), 24 FSW, 25 ILIMIT, 26 VDD (power), 27 MODE, 28 AGND (power), 29 VIN (power), 30 PGND (power)

## SIR500DP-T1-RE3
designator Q?
MOSFET N-Channel Vds=30V Id=351A Rds=470uR; Manufacturer: Vishay; Manufacturer Part Number: SIR500DP-T1-RE3
footprint PowerPAK-SO-8
pins: D, G, S

## SK6805-EC15
designator D?
RGB LED SMD Addressable; Manufacturer: OPSCO; Manufacturer Part Number: SK6805-EC15; Datasheet: https://www.ledlightinghut.com/files/SK6805-EC15-REV-05-EN.pdf; Distributor Link: https://eu.mouser.com/ProductDetail/Adafruit/4492?qs=CUBnOrq4ZJz3oeplDXDOWA%3D%3D
footprint SK6805-EC15
pins: 1 DIN (in), 2 VDD (power), 3 DOUT (out), 4 GND (power)
text: DI; DO

## SKRPANE010
designator SW?
Tactile Switch SMD SPST; Manufacturer: Alps Alpine; Manufacturer Part Number: SKRPANE010
footprint SKRPANE010
pins: 12, 34

## SM06B-GHS-TB
designator J?
Header Connector 6 Position 1.25MM Pitch SMD Horizontal JST GH; Manufacturer: JST; Manufacturer Part Number: SM06B-GHS-TB
footprint Model Name (Footprint not found)
footprint SM06B-GHS-TB
pins: 1, 2, 3, 4, 5, 6